# Altium schematic symbol library MCU_Texas_MSP430.SchLib: 361 symbols (part 8 of 9)
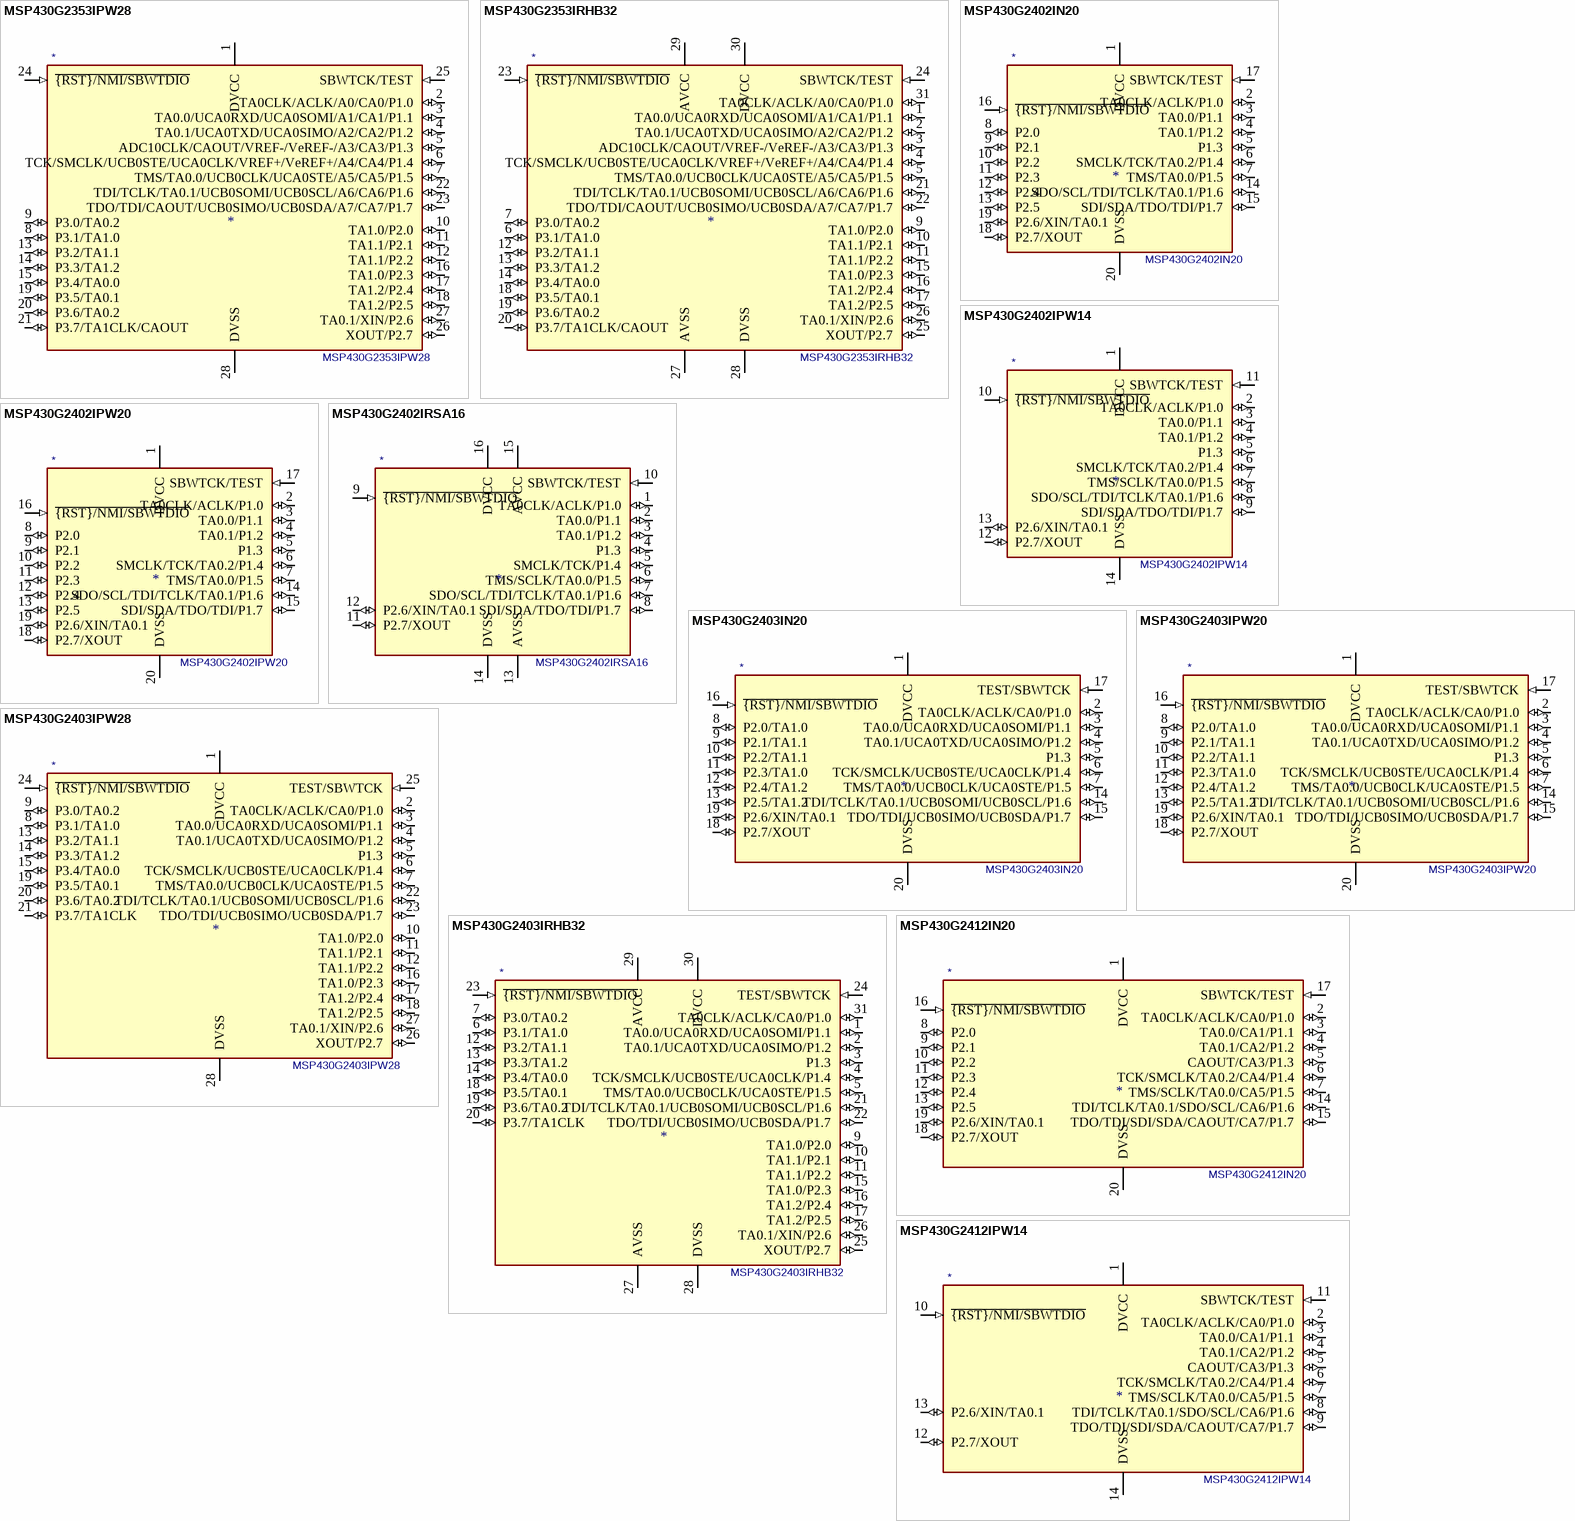
[diagram p41: symbols MSP430G2353IPW28 to MSP430G2412IPW14]

## MSP430G2403IPW28
designator *  value MSP430G2403IPW28
ki_keywords: TI MSP430 16-bit mixed signal microcontroller; ki_description: 8kB Flash, 512B RAM, TSSOP-28; ki_fp_filters: TSSOP*4.4x9.7mm*P0.65mm*; Footprint: Package_SO:TSSOP-28_4.4x9.7mm_P0.65mm; Supplier: http://www.ti.com/lit/ds/symlink/msp430g2403.pdf
footprint TSSOP-28_4.4x9.7mm_P0.65mm
pins: 1 DVCC (power), 2 TA0CLK/ACLK/CA0/P1.0 (io), 3 TA0.0/UCA0RXD/UCA0SOMI/P1.1 (io), 4 TA0.1/UCA0TXD/UCA0SIMO/P1.2 (io), 5 P1.3 (io), 6 TCK/SMCLK/UCB0STE/UCA0CLK/P1.4 (io), 7 TMS/TA0.0/UCB0CLK/UCA0STE/P1.5 (io), 8 P3.1/TA1.0 (io), 9 P3.0/TA0.2 (io), 10 TA1.0/P2.0 (io), 11 TA1.1/P2.1 (io), 12 TA1.1/P2.2 (io), 13 P3.2/TA1.1 (io), 14 P3.3/TA1.2 (io), 15 P3.4/TA0.0 (io), 16 TA1.0/P2.3 (io), 17 TA1.2/P2.4 (io), 18 TA1.2/P2.5 (io), 19 P3.5/TA0.1 (io), 20 P3.6/TA0.2 (io), 21 P3.7/TA1CLK (io), 22 TDI/TCLK/TA0.1/UCB0SOMI/UCB0SCL/P1.6 (io), 23 TDO/TDI/UCB0SIMO/UCB0SDA/P1.7 (io), 24 ~{{RST}/NMI/SBWTDIO} (in), 25 TEST/SBWTCK (in), 26 XOUT/P2.7 (io), 27 TA0.1/XIN/P2.6 (io), 28 DVSS (power)

## MSP430G2403IRHB32
designator *  value MSP430G2403IRHB32
ki_keywords: TI MSP430 16-bit mixed signal microcontroller; ki_description: 8kB Flash, 512B RAM, QFN-32; ki_fp_filters: Texas*S?PVQFN*; Footprint: Package_DFN_QFN:Texas_S-PVQFN-N32_EP3.45x3.45mm; Supplier: http://www.ti.com/lit/ds/symlink/msp430g2403.pdf
footprint Texas_S-PVQFN-N32_EP3.45x3.45mm
pins: 1 TA0.0/UCA0RXD/UCA0SOMI/P1.1 (io), 2 TA0.1/UCA0TXD/UCA0SIMO/P1.2 (io), 3 P1.3 (io), 4 TCK/SMCLK/UCB0STE/UCA0CLK/P1.4 (io), 5 TMS/TA0.0/UCB0CLK/UCA0STE/P1.5 (io), 6 P3.1/TA1.0 (io), 7 P3.0/TA0.2 (io), 9 TA1.0/P2.0 (io), 10 TA1.1/P2.1 (io), 11 TA1.1/P2.2 (io), 12 P3.2/TA1.1 (io), 13 P3.3/TA1.2 (io), 14 P3.4/TA0.0 (io), 15 TA1.0/P2.3 (io), 16 TA1.2/P2.4 (io), 17 TA1.2/P2.5 (io), 18 P3.5/TA0.1 (io), 19 P3.6/TA0.2 (io), 20 P3.7/TA1CLK (io), 21 TDI/TCLK/TA0.1/UCB0SOMI/UCB0SCL/P1.6 (io), 22 TDO/TDI/UCB0SIMO/UCB0SDA/P1.7 (io), 23 ~{{RST}/NMI/SBWTDIO} (in), 24 TEST/SBWTCK (in), 25 XOUT/P2.7 (io), 26 TA0.1/XIN/P2.6 (io), 27 AVSS (power), 28 DVSS (power), 29 AVCC (power), 30 DVCC (power), 31 TA0CLK/ACLK/CA0/P1.0 (io)

## MSP430G2412IN20
designator *  value MSP430G2412IN20
ki_keywords: TI MSP430 16-bit mixed signal microcontroller; ki_description: 8kB Flash, 256B RAM, DIP-20; ki_fp_filters: DIP*W7.62mm*; Footprint: Package_DIP:DIP-20_W7.62mm; Supplier: http://www.ti.com/lit/ds/symlink/msp430g2412.pdf
footprint DIP-20_W7.62mm
pins: 1 DVCC (power), 2 TA0CLK/ACLK/CA0/P1.0 (io), 3 TA0.0/CA1/P1.1 (io), 4 TA0.1/CA2/P1.2 (io), 5 CAOUT/CA3/P1.3 (io), 6 TCK/SMCLK/TA0.2/CA4/P1.4 (io), 7 TMS/SCLK/TA0.0/CA5/P1.5 (io), 8 P2.0 (io), 9 P2.1 (io), 10 P2.2 (io), 11 P2.3 (io), 12 P2.4 (io), 13 P2.5 (io), 14 TDI/TCLK/TA0.1/SDO/SCL/CA6/P1.6 (io), 15 TDO/TDI/SDI/SDA/CAOUT/CA7/P1.7 (io), 16 ~{{RST}/NMI/SBWTDIO} (in), 17 SBWTCK/TEST (in), 18 P2.7/XOUT (io), 19 P2.6/XIN/TA0.1 (io), 20 DVSS (power)

## MSP430G2412IPW14
designator *  value MSP430G2412IPW14
ki_keywords: TI MSP430 16-bit mixed signal microcontroller; ki_description: 8kB Flash, 256B RAM, TSSOP-14; ki_fp_filters: TSSOP*4.4x5mm*P0.65mm*; Footprint: Package_SO:TSSOP-14_4.4x5mm_P0.65mm; Supplier: http://www.ti.com/lit/ds/symlink/msp430g2412.pdf
footprint TSSOP-14_4.4x5mm_P0.65mm
pins: 1 DVCC (power), 2 TA0CLK/ACLK/CA0/P1.0 (io), 3 TA0.0/CA1/P1.1 (io), 4 TA0.1/CA2/P1.2 (io), 5 CAOUT/CA3/P1.3 (io), 6 TCK/SMCLK/TA0.2/CA4/P1.4 (io), 7 TMS/SCLK/TA0.0/CA5/P1.5 (io), 8 TDI/TCLK/TA0.1/SDO/SCL/CA6/P1.6 (io), 9 TDO/TDI/SDI/SDA/CAOUT/CA7/P1.7 (io), 10 ~{{RST}/NMI/SBWTDIO} (in), 11 SBWTCK/TEST (in), 12 P2.7/XOUT (io), 13 P2.6/XIN/TA0.1 (io), 14 DVSS (power)

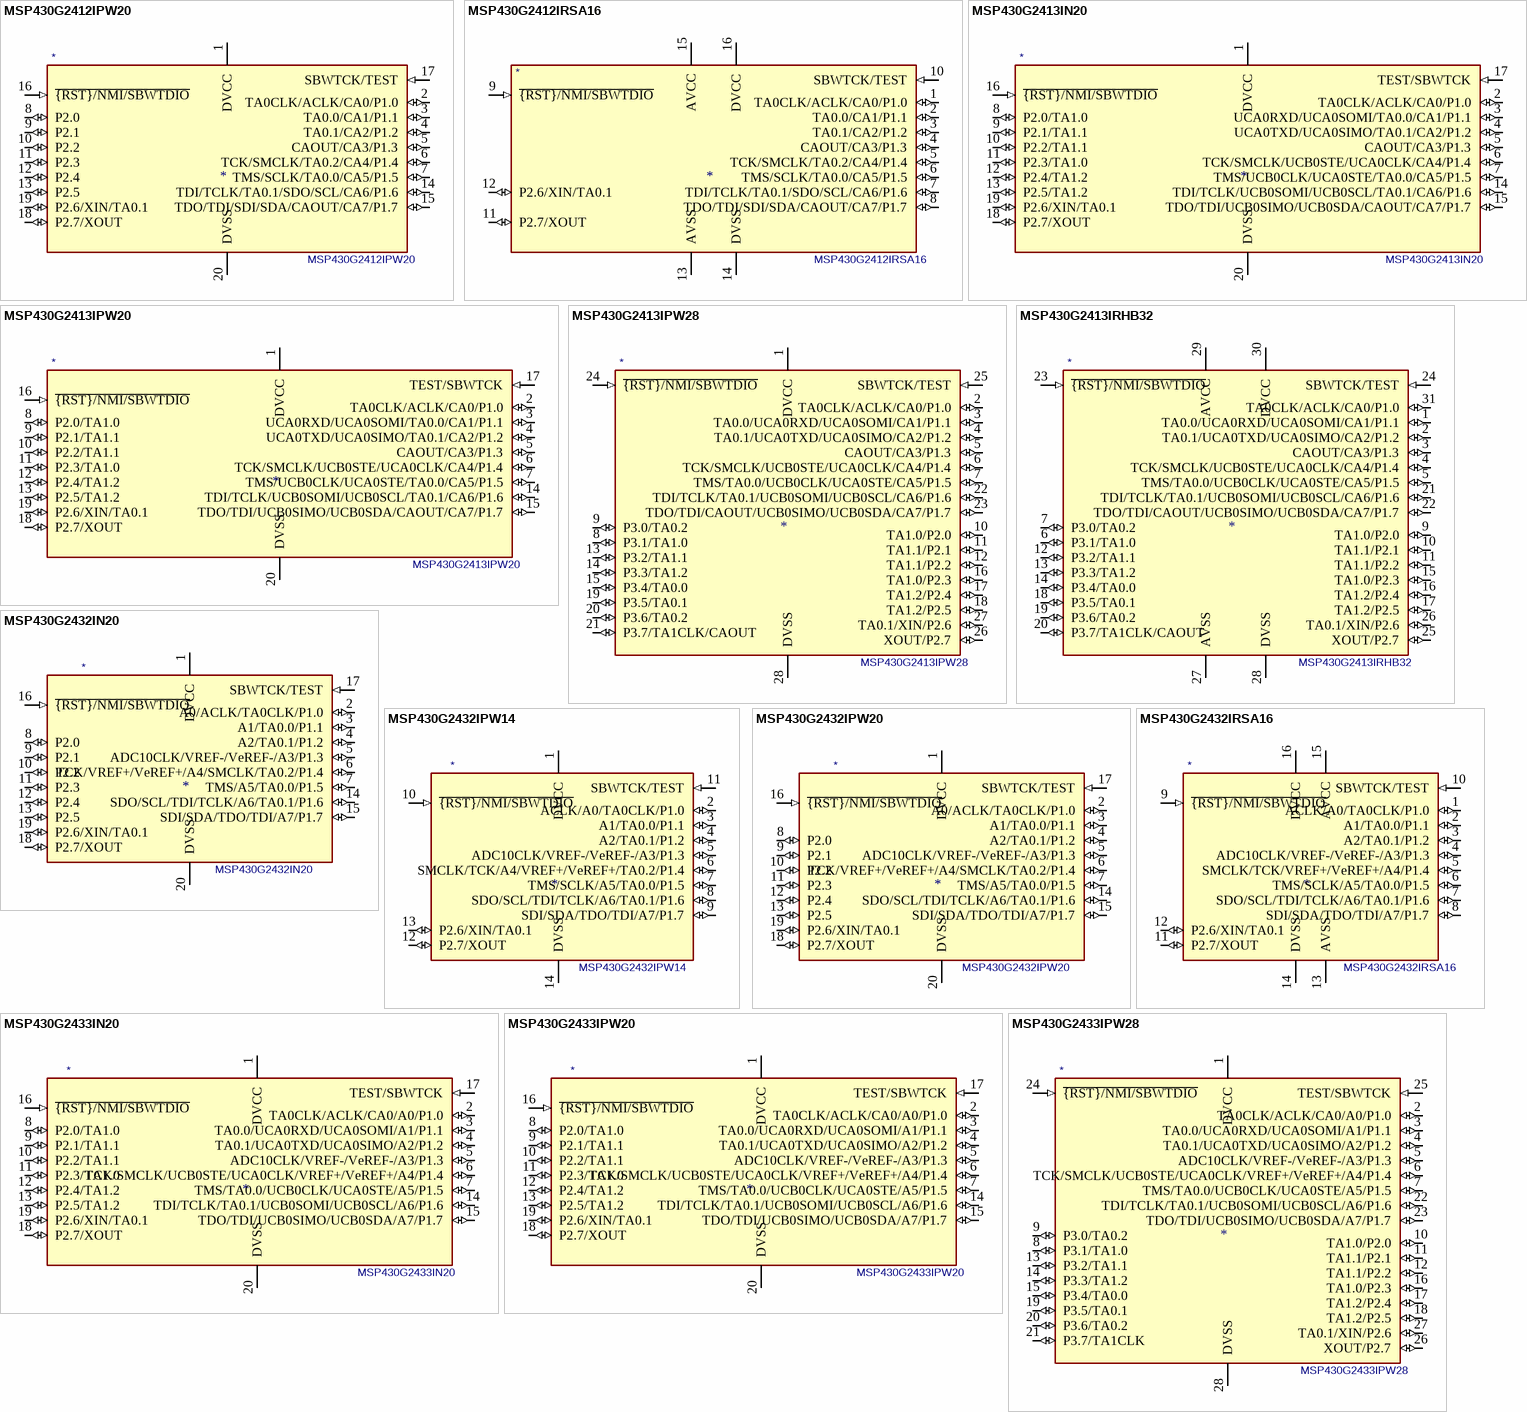
[diagram p30: symbols MSP430G2412IPW20 to MSP430G2433IPW28]

## MSP430G2412IPW20
designator *  value MSP430G2412IPW20
ki_keywords: TI MSP430 16-bit mixed signal microcontroller; ki_description: 8kB Flash, 256B RAM, TSSOP-20; ki_fp_filters: TSSOP*4.4x6.5mm*P0.65mm*; Footprint: Package_SO:TSSOP-20_4.4x6.5mm_P0.65mm; Supplier: http://www.ti.com/lit/ds/symlink/msp430g2412.pdf
footprint TSSOP-20_4.4x6.5mm_P0.65mm
pins: 1 DVCC (power), 2 TA0CLK/ACLK/CA0/P1.0 (io), 3 TA0.0/CA1/P1.1 (io), 4 TA0.1/CA2/P1.2 (io), 5 CAOUT/CA3/P1.3 (io), 6 TCK/SMCLK/TA0.2/CA4/P1.4 (io), 7 TMS/SCLK/TA0.0/CA5/P1.5 (io), 8 P2.0 (io), 9 P2.1 (io), 10 P2.2 (io), 11 P2.3 (io), 12 P2.4 (io), 13 P2.5 (io), 14 TDI/TCLK/TA0.1/SDO/SCL/CA6/P1.6 (io), 15 TDO/TDI/SDI/SDA/CAOUT/CA7/P1.7 (io), 16 ~{{RST}/NMI/SBWTDIO} (in), 17 SBWTCK/TEST (in), 18 P2.7/XOUT (io), 19 P2.6/XIN/TA0.1 (io), 20 DVSS (power)

## MSP430G2412IRSA16
designator *  value MSP430G2412IRSA16
ki_keywords: TI MSP430 16-bit mixed signal microcontroller; ki_description: 8kB Flash, 256B RAM, QFN-16; ki_fp_filters: Texas*S?PVQFN*; Footprint: Package_DFN_QFN:Texas_S-PVQFN-N16_EP2.7x2.7mm; Supplier: http://www.ti.com/lit/ds/symlink/msp430g2412.pdf
footprint Texas_S-PVQFN-N16_EP2.7x2.7mm
pins: 1 TA0CLK/ACLK/CA0/P1.0 (io), 2 TA0.0/CA1/P1.1 (io), 3 TA0.1/CA2/P1.2 (io), 4 CAOUT/CA3/P1.3 (io), 5 TCK/SMCLK/TA0.2/CA4/P1.4 (io), 6 TMS/SCLK/TA0.0/CA5/P1.5 (io), 7 TDI/TCLK/TA0.1/SDO/SCL/CA6/P1.6 (io), 8 TDO/TDI/SDI/SDA/CAOUT/CA7/P1.7 (io), 9 ~{{RST}/NMI/SBWTDIO} (in), 10 SBWTCK/TEST (in), 11 P2.7/XOUT (io), 12 P2.6/XIN/TA0.1 (io), 13 AVSS (power), 14 DVSS (power), 15 AVCC (power), 16 DVCC (power)

## MSP430G2413IN20
designator *  value MSP430G2413IN20
ki_keywords: TI MSP430 16-bit mixed signal microcontroller; ki_description: 8kB Flash, 512B RAM, DIP-20; ki_fp_filters: DIP*W7.62mm*; Footprint: Package_DIP:DIP-20_W7.62mm; Supplier: http://www.ti.com/lit/ds/symlink/msp430g2413.pdf
footprint DIP-20_W7.62mm
pins: 1 DVCC (power), 2 TA0CLK/ACLK/CA0/P1.0 (io), 3 UCA0RXD/UCA0SOMI/TA0.0/CA1/P1.1 (io), 4 UCA0TXD/UCA0SIMO/TA0.1/CA2/P1.2 (io), 5 CAOUT/CA3/P1.3 (io), 6 TCK/SMCLK/UCB0STE/UCA0CLK/CA4/P1.4 (io), 7 TMS/UCB0CLK/UCA0STE/TA0.0/CA5/P1.5 (io), 8 P2.0/TA1.0 (io), 9 P2.1/TA1.1 (io), 10 P2.2/TA1.1 (io), 11 P2.3/TA1.0 (io), 12 P2.4/TA1.2 (io), 13 P2.5/TA1.2 (io), 14 TDI/TCLK/UCB0SOMI/UCB0SCL/TA0.1/CA6/P1.6 (io), 15 TDO/TDI/UCB0SIMO/UCB0SDA/CAOUT/CA7/P1.7 (io), 16 ~{{RST}/NMI/SBWTDIO} (in), 17 TEST/SBWTCK (in), 18 P2.7/XOUT (io), 19 P2.6/XIN/TA0.1 (io), 20 DVSS (power)

## MSP430G2413IPW20
designator *  value MSP430G2413IPW20
ki_keywords: TI MSP430 16-bit mixed signal microcontroller; ki_description: 8kB Flash, 512B RAM, TSSOP-20; ki_fp_filters: TSSOP*4.4x6.5mm*P0.65mm*; Footprint: Package_SO:TSSOP-20_4.4x6.5mm_P0.65mm; Supplier: http://www.ti.com/lit/ds/symlink/msp430g2413.pdf
footprint TSSOP-20_4.4x6.5mm_P0.65mm
pins: 1 DVCC (power), 2 TA0CLK/ACLK/CA0/P1.0 (io), 3 UCA0RXD/UCA0SOMI/TA0.0/CA1/P1.1 (io), 4 UCA0TXD/UCA0SIMO/TA0.1/CA2/P1.2 (io), 5 CAOUT/CA3/P1.3 (io), 6 TCK/SMCLK/UCB0STE/UCA0CLK/CA4/P1.4 (io), 7 TMS/UCB0CLK/UCA0STE/TA0.0/CA5/P1.5 (io), 8 P2.0/TA1.0 (io), 9 P2.1/TA1.1 (io), 10 P2.2/TA1.1 (io), 11 P2.3/TA1.0 (io), 12 P2.4/TA1.2 (io), 13 P2.5/TA1.2 (io), 14 TDI/TCLK/UCB0SOMI/UCB0SCL/TA0.1/CA6/P1.6 (io), 15 TDO/TDI/UCB0SIMO/UCB0SDA/CAOUT/CA7/P1.7 (io), 16 ~{{RST}/NMI/SBWTDIO} (in), 17 TEST/SBWTCK (in), 18 P2.7/XOUT (io), 19 P2.6/XIN/TA0.1 (io), 20 DVSS (power)

## MSP430G2413IPW28
designator *  value MSP430G2413IPW28
ki_keywords: TI MSP430 16-bit mixed signal microcontroller; ki_description: 8kB Flash, 512B RAM, TSSOP-28; ki_fp_filters: TSSOP*4.4x9.7mm*P0.65mm*; Footprint: Package_SO:TSSOP-28_4.4x9.7mm_P0.65mm; Supplier: http://www.ti.com/lit/ds/symlink/msp430g2413.pdf
footprint TSSOP-28_4.4x9.7mm_P0.65mm
pins: 1 DVCC (power), 2 TA0CLK/ACLK/CA0/P1.0 (io), 3 TA0.0/UCA0RXD/UCA0SOMI/CA1/P1.1 (io), 4 TA0.1/UCA0TXD/UCA0SIMO/CA2/P1.2 (io), 5 CAOUT/CA3/P1.3 (io), 6 TCK/SMCLK/UCB0STE/UCA0CLK/CA4/P1.4 (io), 7 TMS/TA0.0/UCB0CLK/UCA0STE/CA5/P1.5 (io), 8 P3.1/TA1.0 (io), 9 P3.0/TA0.2 (io), 10 TA1.0/P2.0 (io), 11 TA1.1/P2.1 (io), 12 TA1.1/P2.2 (io), 13 P3.2/TA1.1 (io), 14 P3.3/TA1.2 (io), 15 P3.4/TA0.0 (io), 16 TA1.0/P2.3 (io), 17 TA1.2/P2.4 (io), 18 TA1.2/P2.5 (io), 19 P3.5/TA0.1 (io), 20 P3.6/TA0.2 (io), 21 P3.7/TA1CLK/CAOUT (io), 22 TDI/TCLK/TA0.1/UCB0SOMI/UCB0SCL/CA6/P1.6 (io), 23 TDO/TDI/CAOUT/UCB0SIMO/UCB0SDA/CA7/P1.7 (io), 24 ~{{RST}/NMI/SBWTDIO} (in), 25 SBWTCK/TEST (in), 26 XOUT/P2.7 (io), 27 TA0.1/XIN/P2.6 (io), 28 DVSS (power)

## MSP430G2413IRHB32
designator *  value MSP430G2413IRHB32
ki_keywords: TI MSP430 16-bit mixed signal microcontroller; ki_description: 8kB Flash, 512B RAM, QFN-32; ki_fp_filters: Texas*S?PVQFN*; Footprint: Package_DFN_QFN:Texas_S-PVQFN-N32_EP3.45x3.45mm; Supplier: http://www.ti.com/lit/ds/symlink/msp430g2413.pdf
footprint Texas_S-PVQFN-N32_EP3.45x3.45mm
pins: 1 TA0.0/UCA0RXD/UCA0SOMI/CA1/P1.1 (io), 2 TA0.1/UCA0TXD/UCA0SIMO/CA2/P1.2 (io), 3 CAOUT/CA3/P1.3 (io), 4 TCK/SMCLK/UCB0STE/UCA0CLK/CA4/P1.4 (io), 5 TMS/TA0.0/UCB0CLK/UCA0STE/CA5/P1.5 (io), 6 P3.1/TA1.0 (io), 7 P3.0/TA0.2 (io), 9 TA1.0/P2.0 (io), 10 TA1.1/P2.1 (io), 11 TA1.1/P2.2 (io), 12 P3.2/TA1.1 (io), 13 P3.3/TA1.2 (io), 14 P3.4/TA0.0 (io), 15 TA1.0/P2.3 (io), 16 TA1.2/P2.4 (io), 17 TA1.2/P2.5 (io), 18 P3.5/TA0.1 (io), 19 P3.6/TA0.2 (io), 20 P3.7/TA1CLK/CAOUT (io), 21 TDI/TCLK/TA0.1/UCB0SOMI/UCB0SCL/CA6/P1.6 (io), 22 TDO/TDI/CAOUT/UCB0SIMO/UCB0SDA/CA7/P1.7 (io), 23 ~{{RST}/NMI/SBWTDIO} (in), 24 SBWTCK/TEST (in), 25 XOUT/P2.7 (io), 26 TA0.1/XIN/P2.6 (io), 27 AVSS (power), 28 DVSS (power), 29 AVCC (power), 30 DVCC (power), 31 TA0CLK/ACLK/CA0/P1.0 (io)

## MSP430G2432IN20
designator *  value MSP430G2432IN20
ki_keywords: TI MSP430 16-bit mixed signal microcontroller; ki_description: 8kB Flash, 256B RAM, DIP-20; ki_fp_filters: DIP*W7.62mm*; Footprint: Package_DIP:DIP-20_W7.62mm; Supplier: http://www.ti.com/lit/ds/symlink/msp430g2432.pdf
footprint DIP-20_W7.62mm
pins: 1 DVCC (power), 2 A0/ACLK/TA0CLK/P1.0 (io), 3 A1/TA0.0/P1.1 (io), 4 A2/TA0.1/P1.2 (io), 5 ADC10CLK/VREF-/VeREF-/A3/P1.3 (io), 6 TCK/VREF+/VeREF+/A4/SMCLK/TA0.2/P1.4 (io), 7 TMS/A5/TA0.0/P1.5 (io), 8 P2.0 (io), 9 P2.1 (io), 10 P2.2 (io), 11 P2.3 (io), 12 P2.4 (io), 13 P2.5 (io), 14 SDO/SCL/TDI/TCLK/A6/TA0.1/P1.6 (io), 15 SDI/SDA/TDO/TDI/A7/P1.7 (io), 16 ~{{RST}/NMI/SBWTDIO} (in), 17 SBWTCK/TEST (in), 18 P2.7/XOUT (io), 19 P2.6/XIN/TA0.1 (io), 20 DVSS (power)

## MSP430G2432IPW14
designator *  value MSP430G2432IPW14
ki_keywords: TI MSP430 16-bit mixed signal microcontroller; ki_description: 8kB Flash, 256B RAM, TSSOP-14; ki_fp_filters: TSSOP*4.4x5mm*P0.65mm*; Footprint: Package_SO:TSSOP-14_4.4x5mm_P0.65mm; Supplier: http://www.ti.com/lit/ds/symlink/msp430g2432.pdf
footprint TSSOP-14_4.4x5mm_P0.65mm
pins: 1 DVCC (power), 2 ACLK/A0/TA0CLK/P1.0 (io), 3 A1/TA0.0/P1.1 (io), 4 A2/TA0.1/P1.2 (io), 5 ADC10CLK/VREF-/VeREF-/A3/P1.3 (io), 6 SMCLK/TCK/A4/VREF+/VeREF+/TA0.2/P1.4 (io), 7 TMS/SCLK/A5/TA0.0/P1.5 (io), 8 SDO/SCL/TDI/TCLK/A6/TA0.1/P1.6 (io), 9 SDI/SDA/TDO/TDI/A7/P1.7 (io), 10 ~{{RST}/NMI/SBWTDIO} (in), 11 SBWTCK/TEST (in), 12 P2.7/XOUT (io), 13 P2.6/XIN/TA0.1 (io), 14 DVSS (power)

## MSP430G2432IPW20
designator *  value MSP430G2432IPW20
ki_keywords: TI MSP430 16-bit mixed signal microcontroller; ki_description: 8kB Flash, 256B RAM, TSSOP-20; ki_fp_filters: TSSOP*4.4x6.5mm*P0.65mm*; Footprint: Package_SO:TSSOP-20_4.4x6.5mm_P0.65mm; Supplier: http://www.ti.com/lit/ds/symlink/msp430g2432.pdf
footprint TSSOP-20_4.4x6.5mm_P0.65mm
pins: 1 DVCC (power), 2 A0/ACLK/TA0CLK/P1.0 (io), 3 A1/TA0.0/P1.1 (io), 4 A2/TA0.1/P1.2 (io), 5 ADC10CLK/VREF-/VeREF-/A3/P1.3 (io), 6 TCK/VREF+/VeREF+/A4/SMCLK/TA0.2/P1.4 (io), 7 TMS/A5/TA0.0/P1.5 (io), 8 P2.0 (io), 9 P2.1 (io), 10 P2.2 (io), 11 P2.3 (io), 12 P2.4 (io), 13 P2.5 (io), 14 SDO/SCL/TDI/TCLK/A6/TA0.1/P1.6 (io), 15 SDI/SDA/TDO/TDI/A7/P1.7 (io), 16 ~{{RST}/NMI/SBWTDIO} (in), 17 SBWTCK/TEST (in), 18 P2.7/XOUT (io), 19 P2.6/XIN/TA0.1 (io), 20 DVSS (power)

## MSP430G2432IRSA16
designator *  value MSP430G2432IRSA16
ki_keywords: TI MSP430 16-bit mixed signal microcontroller; ki_description: 8kB Flash, 256B RAM, QFN-16; ki_fp_filters: Texas*S?PVQFN*; Footprint: Package_DFN_QFN:Texas_S-PVQFN-N16_EP2.7x2.7mm; Supplier: http://www.ti.com/lit/ds/symlink/msp430g2432.pdf
footprint Texas_S-PVQFN-N16_EP2.7x2.7mm
pins: 1 ACLK/A0/TA0CLK/P1.0 (io), 2 A1/TA0.0/P1.1 (io), 3 A2/TA0.1/P1.2 (io), 4 ADC10CLK/VREF-/VeREF-/A3/P1.3 (io), 5 SMCLK/TCK/VREF+/VeREF+/A4/P1.4 (io), 6 TMS/SCLK/A5/TA0.0/P1.5 (io), 7 SDO/SCL/TDI/TCLK/A6/TA0.1/P1.6 (io), 8 SDI/SDA/TDO/TDI/A7/P1.7 (io), 9 ~{{RST}/NMI/SBWTDIO} (in), 10 SBWTCK/TEST (in), 11 P2.7/XOUT (io), 12 P2.6/XIN/TA0.1 (io), 13 AVSS (power), 14 DVSS (power), 15 AVCC (power), 16 DVCC (power)

## MSP430G2433IN20
designator *  value MSP430G2433IN20
ki_keywords: TI MSP430 16-bit mixed signal microcontroller; ki_description: 8kB Flash, 512B RAM, DIP-20; ki_fp_filters: DIP*W7.62mm*; Footprint: Package_DIP:DIP-20_W7.62mm; Supplier: http://www.ti.com/lit/ds/symlink/msp430g2433.pdf
footprint DIP-20_W7.62mm
pins: 1 DVCC (power), 2 TA0CLK/ACLK/CA0/A0/P1.0 (io), 3 TA0.0/UCA0RXD/UCA0SOMI/A1/P1.1 (io), 4 TA0.1/UCA0TXD/UCA0SIMO/A2/P1.2 (io), 5 ADC10CLK/VREF-/VeREF-/A3/P1.3 (io), 6 TCK/SMCLK/UCB0STE/UCA0CLK/VREF+/VeREF+/A4/P1.4 (io), 7 TMS/TA0.0/UCB0CLK/UCA0STE/A5/P1.5 (io), 8 P2.0/TA1.0 (io), 9 P2.1/TA1.1 (io), 10 P2.2/TA1.1 (io), 11 P2.3/TA1.0 (io), 12 P2.4/TA1.2 (io), 13 P2.5/TA1.2 (io), 14 TDI/TCLK/TA0.1/UCB0SOMI/UCB0SCL/A6/P1.6 (io), 15 TDO/TDI/UCB0SIMO/UCB0SDA/A7/P1.7 (io), 16 ~{{RST}/NMI/SBWTDIO} (in), 17 TEST/SBWTCK (in), 18 P2.7/XOUT (io), 19 P2.6/XIN/TA0.1 (io), 20 DVSS (power)

## MSP430G2433IPW20
designator *  value MSP430G2433IPW20
ki_keywords: TI MSP430 16-bit mixed signal microcontroller; ki_description: 8kB Flash, 512B RAM, TSSOP-20; ki_fp_filters: TSSOP*4.4x6.5mm*P0.65mm*; Footprint: Package_SO:TSSOP-20_4.4x6.5mm_P0.65mm; Supplier: http://www.ti.com/lit/ds/symlink/msp430g2433.pdf
footprint TSSOP-20_4.4x6.5mm_P0.65mm
pins: 1 DVCC (power), 2 TA0CLK/ACLK/CA0/A0/P1.0 (io), 3 TA0.0/UCA0RXD/UCA0SOMI/A1/P1.1 (io), 4 TA0.1/UCA0TXD/UCA0SIMO/A2/P1.2 (io), 5 ADC10CLK/VREF-/VeREF-/A3/P1.3 (io), 6 TCK/SMCLK/UCB0STE/UCA0CLK/VREF+/VeREF+/A4/P1.4 (io), 7 TMS/TA0.0/UCB0CLK/UCA0STE/A5/P1.5 (io), 8 P2.0/TA1.0 (io), 9 P2.1/TA1.1 (io), 10 P2.2/TA1.1 (io), 11 P2.3/TA1.0 (io), 12 P2.4/TA1.2 (io), 13 P2.5/TA1.2 (io), 14 TDI/TCLK/TA0.1/UCB0SOMI/UCB0SCL/A6/P1.6 (io), 15 TDO/TDI/UCB0SIMO/UCB0SDA/A7/P1.7 (io), 16 ~{{RST}/NMI/SBWTDIO} (in), 17 TEST/SBWTCK (in), 18 P2.7/XOUT (io), 19 P2.6/XIN/TA0.1 (io), 20 DVSS (power)

## MSP430G2433IPW28
designator *  value MSP430G2433IPW28
ki_keywords: TI MSP430 16-bit mixed signal microcontroller; ki_description: 8kB Flash, 512B RAM, TSSOP-28; ki_fp_filters: TSSOP*4.4x9.7mm*P0.65mm*; Footprint: Package_SO:TSSOP-28_4.4x9.7mm_P0.65mm; Supplier: http://www.ti.com/lit/ds/symlink/msp430g2433.pdf
footprint TSSOP-28_4.4x9.7mm_P0.65mm
pins: 1 DVCC (power), 2 TA0CLK/ACLK/CA0/A0/P1.0 (io), 3 TA0.0/UCA0RXD/UCA0SOMI/A1/P1.1 (io), 4 TA0.1/UCA0TXD/UCA0SIMO/A2/P1.2 (io), 5 ADC10CLK/VREF-/VeREF-/A3/P1.3 (io), 6 TCK/SMCLK/UCB0STE/UCA0CLK/VREF+/VeREF+/A4/P1.4 (io), 7 TMS/TA0.0/UCB0CLK/UCA0STE/A5/P1.5 (io), 8 P3.1/TA1.0 (io), 9 P3.0/TA0.2 (io), 10 TA1.0/P2.0 (io), 11 TA1.1/P2.1 (io), 12 TA1.1/P2.2 (io), 13 P3.2/TA1.1 (io), 14 P3.3/TA1.2 (io), 15 P3.4/TA0.0 (io), 16 TA1.0/P2.3 (io), 17 TA1.2/P2.4 (io), 18 TA1.2/P2.5 (io), 19 P3.5/TA0.1 (io), 20 P3.6/TA0.2 (io), 21 P3.7/TA1CLK (io), 22 TDI/TCLK/TA0.1/UCB0SOMI/UCB0SCL/A6/P1.6 (io), 23 TDO/TDI/UCB0SIMO/UCB0SDA/A7/P1.7 (io), 24 ~{{RST}/NMI/SBWTDIO} (in), 25 TEST/SBWTCK (in), 26 XOUT/P2.7 (io), 27 TA0.1/XIN/P2.6 (io), 28 DVSS (power)

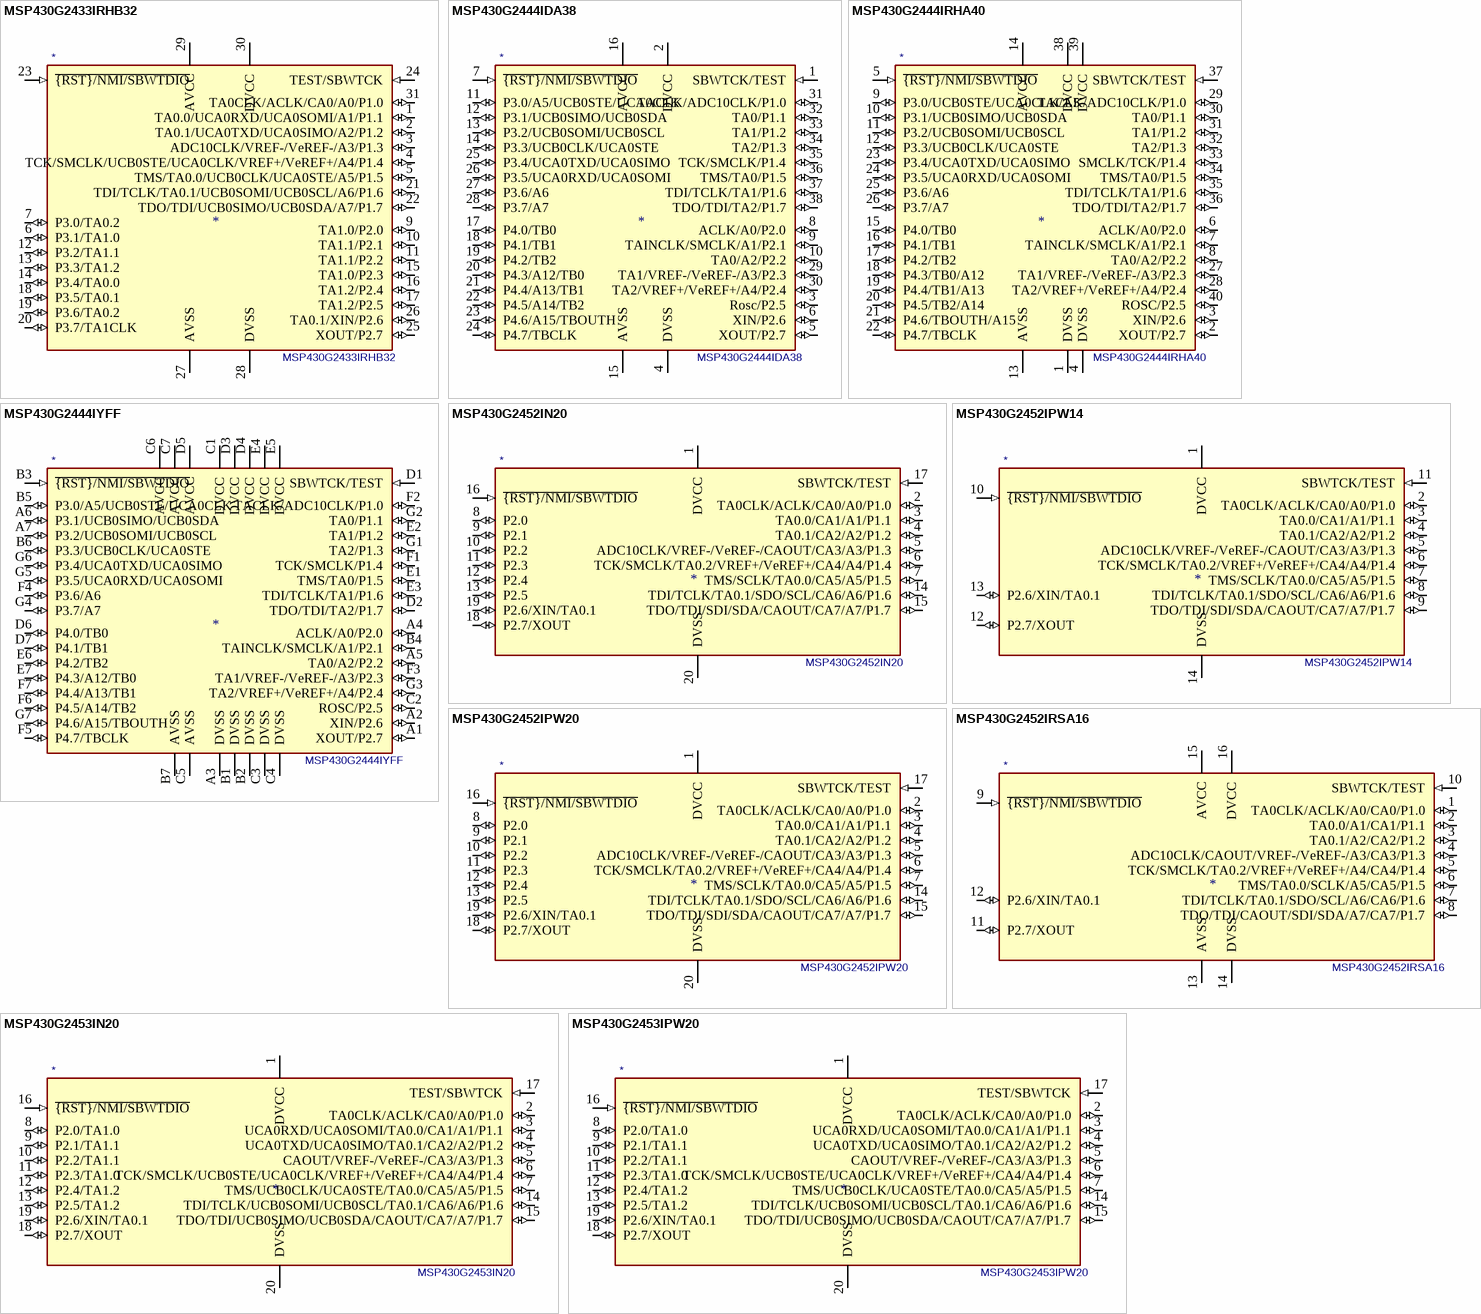
[diagram p31: symbols MSP430G2433IRHB32 to MSP430G2453IPW20]

## MSP430G2433IRHB32
designator *  value MSP430G2433IRHB32
ki_keywords: TI MSP430 16-bit mixed signal microcontroller; ki_description: 8kB Flash, 512B RAM, QFN-32; ki_fp_filters: Texas*S?PVQFN*; Footprint: Package_DFN_QFN:Texas_S-PVQFN-N32_EP3.45x3.45mm; Supplier: http://www.ti.com/lit/ds/symlink/msp430g2433.pdf
footprint Texas_S-PVQFN-N32_EP3.45x3.45mm
pins: 1 TA0.0/UCA0RXD/UCA0SOMI/A1/P1.1 (io), 2 TA0.1/UCA0TXD/UCA0SIMO/A2/P1.2 (io), 3 ADC10CLK/VREF-/VeREF-/A3/P1.3 (io), 4 TCK/SMCLK/UCB0STE/UCA0CLK/VREF+/VeREF+/A4/P1.4 (io), 5 TMS/TA0.0/UCB0CLK/UCA0STE/A5/P1.5 (io), 6 P3.1/TA1.0 (io), 7 P3.0/TA0.2 (io), 9 TA1.0/P2.0 (io), 10 TA1.1/P2.1 (io), 11 TA1.1/P2.2 (io), 12 P3.2/TA1.1 (io), 13 P3.3/TA1.2 (io), 14 P3.4/TA0.0 (io), 15 TA1.0/P2.3 (io), 16 TA1.2/P2.4 (io), 17 TA1.2/P2.5 (io), 18 P3.5/TA0.1 (io), 19 P3.6/TA0.2 (io), 20 P3.7/TA1CLK (io), 21 TDI/TCLK/TA0.1/UCB0SOMI/UCB0SCL/A6/P1.6 (io), 22 TDO/TDI/UCB0SIMO/UCB0SDA/A7/P1.7 (io), 23 ~{{RST}/NMI/SBWTDIO} (in), 24 TEST/SBWTCK (in), 25 XOUT/P2.7 (io), 26 TA0.1/XIN/P2.6 (io), 27 AVSS (power), 28 DVSS (power), 29 AVCC (power), 30 DVCC (power), 31 TA0CLK/ACLK/CA0/A0/P1.0 (io)

## MSP430G2444IDA38
designator *  value MSP430G2444IDA38
ki_keywords: TI MSP430 16-bit mixed signal microcontroller; ki_description: 8kB + 256B Flash, 512B RAM, TSSOP-38; ki_fp_filters: TSSOP*6.1x12.5mm*P0.65mm*; Footprint: Package_SO:TSSOP-38_6.1x12.5mm_P0.65mm; Supplier: http://www.ti.com/lit/ds/symlink/msp430g2444.pdf
footprint TSSOP-38_6.1x12.5mm_P0.65mm
pins: 1 SBWTCK/TEST (in), 2 DVCC (power), 3 Rosc/P2.5 (io), 4 DVSS (power), 5 XOUT/P2.7 (io), 6 XIN/P2.6 (io), 7 ~{{RST}/NMI/SBWTDIO} (in), 8 ACLK/A0/P2.0 (io), 9 TAINCLK/SMCLK/A1/P2.1 (io), 10 TA0/A2/P2.2 (io), 11 P3.0/A5/UCB0STE/UCA0CLK (io), 12 P3.1/UCB0SIMO/UCB0SDA (io), 13 P3.2/UCB0SOMI/UCB0SCL (io), 14 P3.3/UCB0CLK/UCA0STE (io), 15 AVSS (power), 16 AVCC (power), 17 P4.0/TB0 (io), 18 P4.1/TB1 (io), 19 P4.2/TB2 (io), 20 P4.3/A12/TB0 (io), 21 P4.4/A13/TB1 (io), 22 P4.5/A14/TB2 (io), 23 P4.6/A15/TBOUTH (io), 24 P4.7/TBCLK (io), 25 P3.4/UCA0TXD/UCA0SIMO (io), 26 P3.5/UCA0RXD/UCA0SOMI (io), 27 P3.6/A6 (io), 28 P3.7/A7 (io), 29 TA1/VREF-/VeREF-/A3/P2.3 (io), 30 TA2/VREF+/VeREF+/A4/P2.4 (io), 31 TACLK/ADC10CLK/P1.0 (io), 32 TA0/P1.1 (io), 33 TA1/P1.2 (io), 34 TA2/P1.3 (io), 35 TCK/SMCLK/P1.4 (io), 36 TMS/TA0/P1.5 (io), 37 TDI/TCLK/TA1/P1.6 (io), 38 TDO/TDI/TA2/P1.7 (io)

## MSP430G2444IRHA40
designator *  value MSP430G2444IRHA40
ki_keywords: TI MSP430 16-bit mixed signal microcontroller; ki_description: 8kB + 256B Flash, 512B RAM, QFN-40; ki_fp_filters: Texas*S?PVQFN*; Footprint: Package_DFN_QFN:Texas_S-PVQFN-N40_EP4.15x4.15mm; Supplier: http://www.ti.com/lit/ds/symlink/msp430g2444.pdf
footprint Texas_S-PVQFN-N40_EP4.15x4.15mm
pins: 1 DVSS (power), 2 XOUT/P2.7 (io), 3 XIN/P2.6 (io), 4 DVSS (power), 5 ~{{RST}/NMI/SBWTDIO} (in), 6 ACLK/A0/P2.0 (io), 7 TAINCLK/SMCLK/A1/P2.1 (io), 8 TA0/A2/P2.2 (io), 9 P3.0/UCB0STE/UCA0CLK/A5 (io), 10 P3.1/UCB0SIMO/UCB0SDA (io), 11 P3.2/UCB0SOMI/UCB0SCL (io), 12 P3.3/UCB0CLK/UCA0STE (io), 13 AVSS (power), 14 AVCC (power), 15 P4.0/TB0 (io), 16 P4.1/TB1 (io), 17 P4.2/TB2 (io), 18 P4.3/TB0/A12 (io), 19 P4.4/TB1/A13 (io), 20 P4.5/TB2/A14 (io), 21 P4.6/TBOUTH/A15 (io), 22 P4.7/TBCLK (io), 23 P3.4/UCA0TXD/UCA0SIMO (io), 24 P3.5/UCA0RXD/UCA0SOMI (io), 25 P3.6/A6 (io), 26 P3.7/A7 (io), 27 TA1/VREF-/VeREF-/A3/P2.3 (io), 28 TA2/VREF+/VeREF+/A4/P2.4 (io), 29 TACLK/ADC10CLK/P1.0 (io), 30 TA0/P1.1 (io), 31 TA1/P1.2 (io), 32 TA2/P1.3 (io), 33 SMCLK/TCK/P1.4 (io), 34 TMS/TA0/P1.5 (io), 35 TDI/TCLK/TA1/P1.6 (io), 36 TDO/TDI/TA2/P1.7 (io), 37 SBWTCK/TEST (in), 38 DVCC (power), 39 DVCC (power), 40 ROSC/P2.5 (io)

## MSP430G2444IYFF
designator *  value MSP430G2444IYFF
ki_keywords: TI MSP430 16-bit mixed signal microcontroller; ki_description: 8kB + 256B Flash, 512B RAM, BGA-49; ki_fp_filters: Texas*DSBGA*3.33x3.488mm*Layout7x7*P0.4mm*; Footprint: Package_BGA:Texas_DSBGA-49_3.33x3.488mm_Layout7x7_P0.4mm; Supplier: http://www.ti.com/lit/ds/symlink/msp430g2444.pdf
footprint Texas_DSBGA-49_3.33x3.488mm_Layout7x7_P0.4mm
pins: A1 XOUT/P2.7 (io), A2 XIN/P2.6 (io), A3 DVSS (power), A4 ACLK/A0/P2.0 (io), A5 TA0/A2/P2.2 (io), A6 P3.1/UCB0SIMO/UCB0SDA (io), A7 P3.2/UCB0SOMI/UCB0SCL (io), B1 DVSS (power), B2 DVSS (power), B3 ~{{RST}/NMI/SBWTDIO} (in), B4 TAINCLK/SMCLK/A1/P2.1 (io), B5 P3.0/A5/UCB0STE/UCA0CLK (io), B6 P3.3/UCB0CLK/UCA0STE (io), B7 AVSS (power), C1 DVCC (power), C2 ROSC/P2.5 (io), C3 DVSS (power), C4 DVSS (power), C5 AVSS (power), C6 AVCC (power), C7 AVCC (power), D1 SBWTCK/TEST (in), D2 TDO/TDI/TA2/P1.7 (io), D3 DVCC (power), D4 DVCC (power), D5 AVCC (power), D6 P4.0/TB0 (io), D7 P4.1/TB1 (io), E1 TMS/TA0/P1.5 (io), E2 TA1/P1.2 (io), E3 TDI/TCLK/TA1/P1.6 (io), E4 DVCC (power), E5 DVCC (power), E6 P4.2/TB2 (io), E7 P4.3/A12/TB0 (io), F1 TCK/SMCLK/P1.4 (io), F2 TACLK/ADC10CLK/P1.0 (io), F3 TA1/VREF-/VeREF-/A3/P2.3 (io), F4 P3.6/A6 (io), F5 P4.7/TBCLK (io), F6 P4.5/A14/TB2 (io), F7 P4.4/A13/TB1 (io), G1 TA2/P1.3 (io), G2 TA0/P1.1 (io), G3 TA2/VREF+/VeREF+/A4/P2.4 (io), G4 P3.7/A7 (io), G5 P3.5/UCA0RXD/UCA0SOMI (io), G6 P3.4/UCA0TXD/UCA0SIMO (io), G7 P4.6/A15/TBOUTH (io)

## MSP430G2452IN20
designator *  value MSP430G2452IN20
ki_keywords: TI MSP430 16-bit mixed signal microcontroller; ki_description: 8kB Flash, 256B RAM, DIP-20; ki_fp_filters: DIP*W7.62mm*; Footprint: Package_DIP:DIP-20_W7.62mm; Supplier: http://www.ti.com/lit/ds/symlink/msp430g2452.pdf
footprint DIP-20_W7.62mm
pins: 1 DVCC (power), 2 TA0CLK/ACLK/CA0/A0/P1.0 (io), 3 TA0.0/CA1/A1/P1.1 (io), 4 TA0.1/CA2/A2/P1.2 (io), 5 ADC10CLK/VREF-/VeREF-/CAOUT/CA3/A3/P1.3 (io), 6 TCK/SMCLK/TA0.2/VREF+/VeREF+/CA4/A4/P1.4 (io), 7 TMS/SCLK/TA0.0/CA5/A5/P1.5 (io), 8 P2.0 (io), 9 P2.1 (io), 10 P2.2 (io), 11 P2.3 (io), 12 P2.4 (io), 13 P2.5 (io), 14 TDI/TCLK/TA0.1/SDO/SCL/CA6/A6/P1.6 (io), 15 TDO/TDI/SDI/SDA/CAOUT/CA7/A7/P1.7 (io), 16 ~{{RST}/NMI/SBWTDIO} (in), 17 SBWTCK/TEST (in), 18 P2.7/XOUT (io), 19 P2.6/XIN/TA0.1 (io), 20 DVSS (power)

## MSP430G2452IPW14
designator *  value MSP430G2452IPW14
ki_keywords: TI MSP430 16-bit mixed signal microcontroller; ki_description: 8kB Flash, 256B RAM, TSSOP-14; ki_fp_filters: TSSOP*4.4x5mm*P0.65mm*; Footprint: Package_SO:TSSOP-14_4.4x5mm_P0.65mm; Supplier: http://www.ti.com/lit/ds/symlink/msp430g2452.pdf
footprint TSSOP-14_4.4x5mm_P0.65mm
pins: 1 DVCC (power), 2 TA0CLK/ACLK/CA0/A0/P1.0 (io), 3 TA0.0/CA1/A1/P1.1 (io), 4 TA0.1/CA2/A2/P1.2 (io), 5 ADC10CLK/VREF-/VeREF-/CAOUT/CA3/A3/P1.3 (io), 6 TCK/SMCLK/TA0.2/VREF+/VeREF+/CA4/A4/P1.4 (io), 7 TMS/SCLK/TA0.0/CA5/A5/P1.5 (io), 8 TDI/TCLK/TA0.1/SDO/SCL/CA6/A6/P1.6 (io), 9 TDO/TDI/SDI/SDA/CAOUT/CA7/A7/P1.7 (io), 10 ~{{RST}/NMI/SBWTDIO} (in), 11 SBWTCK/TEST (in), 12 P2.7/XOUT (io), 13 P2.6/XIN/TA0.1 (io), 14 DVSS (power)

## MSP430G2452IPW20
designator *  value MSP430G2452IPW20
ki_keywords: TI MSP430 16-bit mixed signal microcontroller; ki_description: 8kB Flash, 256B RAM, TSSOP-20; ki_fp_filters: TSSOP*4.4x6.5mm*P0.65mm*; Footprint: Package_SO:TSSOP-20_4.4x6.5mm_P0.65mm; Supplier: http://www.ti.com/lit/ds/symlink/msp430g2452.pdf
footprint TSSOP-20_4.4x6.5mm_P0.65mm
pins: 1 DVCC (power), 2 TA0CLK/ACLK/CA0/A0/P1.0 (io), 3 TA0.0/CA1/A1/P1.1 (io), 4 TA0.1/CA2/A2/P1.2 (io), 5 ADC10CLK/VREF-/VeREF-/CAOUT/CA3/A3/P1.3 (io), 6 TCK/SMCLK/TA0.2/VREF+/VeREF+/CA4/A4/P1.4 (io), 7 TMS/SCLK/TA0.0/CA5/A5/P1.5 (io), 8 P2.0 (io), 9 P2.1 (io), 10 P2.2 (io), 11 P2.3 (io), 12 P2.4 (io), 13 P2.5 (io), 14 TDI/TCLK/TA0.1/SDO/SCL/CA6/A6/P1.6 (io), 15 TDO/TDI/SDI/SDA/CAOUT/CA7/A7/P1.7 (io), 16 ~{{RST}/NMI/SBWTDIO} (in), 17 SBWTCK/TEST (in), 18 P2.7/XOUT (io), 19 P2.6/XIN/TA0.1 (io), 20 DVSS (power)

## MSP430G2452IRSA16
designator *  value MSP430G2452IRSA16
ki_keywords: TI MSP430 16-bit mixed signal microcontroller; ki_description: 8kB Flash, 256B RAM, QFN-16; ki_fp_filters: Texas*S?PVQFN*; Footprint: Package_DFN_QFN:Texas_S-PVQFN-N16_EP2.7x2.7mm; Supplier: http://www.ti.com/lit/ds/symlink/msp430g2452.pdf
footprint Texas_S-PVQFN-N16_EP2.7x2.7mm
pins: 1 TA0CLK/ACLK/A0/CA0/P1.0 (io), 2 TA0.0/A1/CA1/P1.1 (io), 3 TA0.1/A2/CA2/P1.2 (io), 4 ADC10CLK/CAOUT/VREF-/VeREF-/A3/CA3/P1.3 (io), 5 TCK/SMCLK/TA0.2/VREF+/VeREF+/A4/CA4/P1.4 (io), 6 TMS/TA0.0/SCLK/A5/CA5/P1.5 (io), 7 TDI/TCLK/TA0.1/SDO/SCL/A6/CA6/P1.6 (io), 8 TDO/TDI/CAOUT/SDI/SDA/A7/CA7/P1.7 (io), 9 ~{{RST}/NMI/SBWTDIO} (in), 10 SBWTCK/TEST (in), 11 P2.7/XOUT (io), 12 P2.6/XIN/TA0.1 (io), 13 AVSS (power), 14 DVSS (power), 15 AVCC (power), 16 DVCC (power)

## MSP430G2453IN20
designator *  value MSP430G2453IN20
ki_keywords: TI MSP430 16-bit mixed signal microcontroller; ki_description: 8kB Flash, 512B RAM, DIP-20; ki_fp_filters: DIP*W7.62mm*; Footprint: Package_DIP:DIP-20_W7.62mm; Supplier: http://www.ti.com/lit/ds/symlink/msp430g2453.pdf
footprint DIP-20_W7.62mm
pins: 1 DVCC (power), 2 TA0CLK/ACLK/CA0/A0/P1.0 (io), 3 UCA0RXD/UCA0SOMI/TA0.0/CA1/A1/P1.1 (io), 4 UCA0TXD/UCA0SIMO/TA0.1/CA2/A2/P1.2 (io), 5 CAOUT/VREF-/VeREF-/CA3/A3/P1.3 (io), 6 TCK/SMCLK/UCB0STE/UCA0CLK/VREF+/VeREF+/CA4/A4/P1.4 (io), 7 TMS/UCB0CLK/UCA0STE/TA0.0/CA5/A5/P1.5 (io), 8 P2.0/TA1.0 (io), 9 P2.1/TA1.1 (io), 10 P2.2/TA1.1 (io), 11 P2.3/TA1.0 (io), 12 P2.4/TA1.2 (io), 13 P2.5/TA1.2 (io), 14 TDI/TCLK/UCB0SOMI/UCB0SCL/TA0.1/CA6/A6/P1.6 (io), 15 TDO/TDI/UCB0SIMO/UCB0SDA/CAOUT/CA7/A7/P1.7 (io), 16 ~{{RST}/NMI/SBWTDIO} (in), 17 TEST/SBWTCK (in), 18 P2.7/XOUT (io), 19 P2.6/XIN/TA0.1 (io), 20 DVSS (power)

## MSP430G2453IPW20
designator *  value MSP430G2453IPW20
ki_keywords: TI MSP430 16-bit mixed signal microcontroller; ki_description: 8kB Flash, 512B RAM, TSSOP-20; ki_fp_filters: TSSOP*4.4x6.5mm*P0.65mm*; Footprint: Package_SO:TSSOP-20_4.4x6.5mm_P0.65mm; Supplier: http://www.ti.com/lit/ds/symlink/msp430g2453.pdf
footprint TSSOP-20_4.4x6.5mm_P0.65mm
pins: 1 DVCC (power), 2 TA0CLK/ACLK/CA0/A0/P1.0 (io), 3 UCA0RXD/UCA0SOMI/TA0.0/CA1/A1/P1.1 (io), 4 UCA0TXD/UCA0SIMO/TA0.1/CA2/A2/P1.2 (io), 5 CAOUT/VREF-/VeREF-/CA3/A3/P1.3 (io), 6 TCK/SMCLK/UCB0STE/UCA0CLK/VREF+/VeREF+/CA4/A4/P1.4 (io), 7 TMS/UCB0CLK/UCA0STE/TA0.0/CA5/A5/P1.5 (io), 8 P2.0/TA1.0 (io), 9 P2.1/TA1.1 (io), 10 P2.2/TA1.1 (io), 11 P2.3/TA1.0 (io), 12 P2.4/TA1.2 (io), 13 P2.5/TA1.2 (io), 14 TDI/TCLK/UCB0SOMI/UCB0SCL/TA0.1/CA6/A6/P1.6 (io), 15 TDO/TDI/UCB0SIMO/UCB0SDA/CAOUT/CA7/A7/P1.7 (io), 16 ~{{RST}/NMI/SBWTDIO} (in), 17 TEST/SBWTCK (in), 18 P2.7/XOUT (io), 19 P2.6/XIN/TA0.1 (io), 20 DVSS (power)

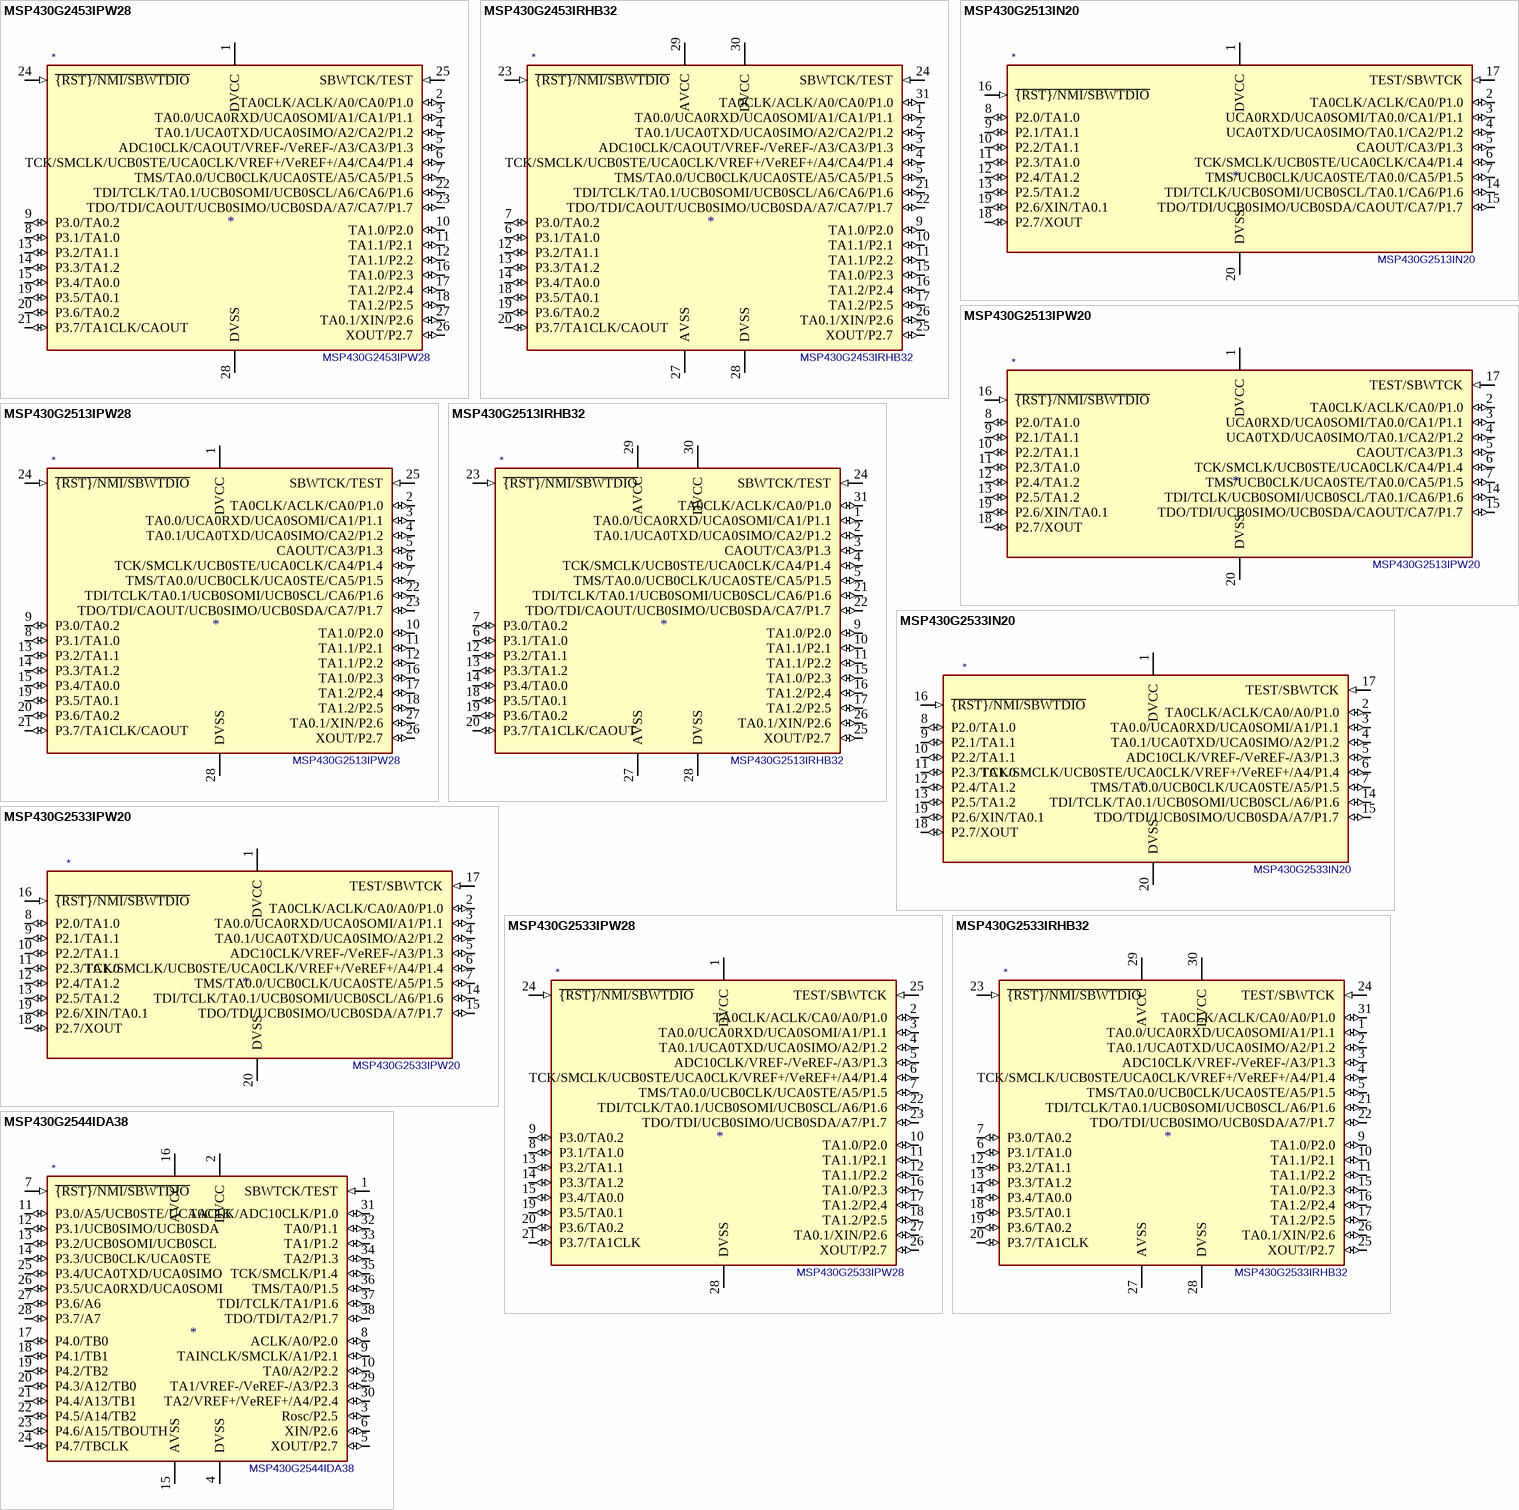
[diagram p32: symbols MSP430G2453IPW28 to MSP430G2544IDA38]

## MSP430G2453IPW28
designator *  value MSP430G2453IPW28
ki_keywords: TI MSP430 16-bit mixed signal microcontroller; ki_description: 8kB Flash, 512B RAM, TSSOP-28; ki_fp_filters: TSSOP*4.4x9.7mm*P0.65mm*; Footprint: Package_SO:TSSOP-28_4.4x9.7mm_P0.65mm; Supplier: http://www.ti.com/lit/ds/symlink/msp430g2453.pdf
footprint TSSOP-28_4.4x9.7mm_P0.65mm
pins: 1 DVCC (power), 2 TA0CLK/ACLK/A0/CA0/P1.0 (io), 3 TA0.0/UCA0RXD/UCA0SOMI/A1/CA1/P1.1 (io), 4 TA0.1/UCA0TXD/UCA0SIMO/A2/CA2/P1.2 (io), 5 ADC10CLK/CAOUT/VREF-/VeREF-/A3/CA3/P1.3 (io), 6 TCK/SMCLK/UCB0STE/UCA0CLK/VREF+/VeREF+/A4/CA4/P1.4 (io), 7 TMS/TA0.0/UCB0CLK/UCA0STE/A5/CA5/P1.5 (io), 8 P3.1/TA1.0 (io), 9 P3.0/TA0.2 (io), 10 TA1.0/P2.0 (io), 11 TA1.1/P2.1 (io), 12 TA1.1/P2.2 (io), 13 P3.2/TA1.1 (io), 14 P3.3/TA1.2 (io), 15 P3.4/TA0.0 (io), 16 TA1.0/P2.3 (io), 17 TA1.2/P2.4 (io), 18 TA1.2/P2.5 (io), 19 P3.5/TA0.1 (io), 20 P3.6/TA0.2 (io), 21 P3.7/TA1CLK/CAOUT (io), 22 TDI/TCLK/TA0.1/UCB0SOMI/UCB0SCL/A6/CA6/P1.6 (io), 23 TDO/TDI/CAOUT/UCB0SIMO/UCB0SDA/A7/CA7/P1.7 (io), 24 ~{{RST}/NMI/SBWTDIO} (in), 25 SBWTCK/TEST (in), 26 XOUT/P2.7 (io), 27 TA0.1/XIN/P2.6 (io), 28 DVSS (power)

## MSP430G2453IRHB32
designator *  value MSP430G2453IRHB32
ki_keywords: TI MSP430 16-bit mixed signal microcontroller; ki_description: 8kB Flash, 512B RAM, QFN-32; ki_fp_filters: Texas*S?PVQFN*; Footprint: Package_DFN_QFN:Texas_S-PVQFN-N32_EP3.45x3.45mm; Supplier: http://www.ti.com/lit/ds/symlink/msp430g2453.pdf
footprint Texas_S-PVQFN-N32_EP3.45x3.45mm
pins: 1 TA0.0/UCA0RXD/UCA0SOMI/A1/CA1/P1.1 (io), 2 TA0.1/UCA0TXD/UCA0SIMO/A2/CA2/P1.2 (io), 3 ADC10CLK/CAOUT/VREF-/VeREF-/A3/CA3/P1.3 (io), 4 TCK/SMCLK/UCB0STE/UCA0CLK/VREF+/VeREF+/A4/CA4/P1.4 (io), 5 TMS/TA0.0/UCB0CLK/UCA0STE/A5/CA5/P1.5 (io), 6 P3.1/TA1.0 (io), 7 P3.0/TA0.2 (io), 9 TA1.0/P2.0 (io), 10 TA1.1/P2.1 (io), 11 TA1.1/P2.2 (io), 12 P3.2/TA1.1 (io), 13 P3.3/TA1.2 (io), 14 P3.4/TA0.0 (io), 15 TA1.0/P2.3 (io), 16 TA1.2/P2.4 (io), 17 TA1.2/P2.5 (io), 18 P3.5/TA0.1 (io), 19 P3.6/TA0.2 (io), 20 P3.7/TA1CLK/CAOUT (io), 21 TDI/TCLK/TA0.1/UCB0SOMI/UCB0SCL/A6/CA6/P1.6 (io), 22 TDO/TDI/CAOUT/UCB0SIMO/UCB0SDA/A7/CA7/P1.7 (io), 23 ~{{RST}/NMI/SBWTDIO} (in), 24 SBWTCK/TEST (in), 25 XOUT/P2.7 (io), 26 TA0.1/XIN/P2.6 (io), 27 AVSS (power), 28 DVSS (power), 29 AVCC (power), 30 DVCC (power), 31 TA0CLK/ACLK/A0/CA0/P1.0 (io)

## MSP430G2513IN20
designator *  value MSP430G2513IN20
ki_keywords: TI MSP430 16-bit mixed signal microcontroller; ki_description: 16kB Flash, 512B RAM, DIP-20; ki_fp_filters: DIP*W7.62mm*; Footprint: Package_DIP:DIP-20_W7.62mm; Supplier: http://www.ti.com/lit/ds/symlink/msp430g2513.pdf
footprint DIP-20_W7.62mm
pins: 1 DVCC (power), 2 TA0CLK/ACLK/CA0/P1.0 (io), 3 UCA0RXD/UCA0SOMI/TA0.0/CA1/P1.1 (io), 4 UCA0TXD/UCA0SIMO/TA0.1/CA2/P1.2 (io), 5 CAOUT/CA3/P1.3 (io), 6 TCK/SMCLK/UCB0STE/UCA0CLK/CA4/P1.4 (io), 7 TMS/UCB0CLK/UCA0STE/TA0.0/CA5/P1.5 (io), 8 P2.0/TA1.0 (io), 9 P2.1/TA1.1 (io), 10 P2.2/TA1.1 (io), 11 P2.3/TA1.0 (io), 12 P2.4/TA1.2 (io), 13 P2.5/TA1.2 (io), 14 TDI/TCLK/UCB0SOMI/UCB0SCL/TA0.1/CA6/P1.6 (io), 15 TDO/TDI/UCB0SIMO/UCB0SDA/CAOUT/CA7/P1.7 (io), 16 ~{{RST}/NMI/SBWTDIO} (in), 17 TEST/SBWTCK (in), 18 P2.7/XOUT (io), 19 P2.6/XIN/TA0.1 (io), 20 DVSS (power)

## MSP430G2513IPW20
designator *  value MSP430G2513IPW20
ki_keywords: TI MSP430 16-bit mixed signal microcontroller; ki_description: 16kB Flash, 512B RAM, TSSOP-20; ki_fp_filters: TSSOP*4.4x6.5mm*P0.65mm*; Footprint: Package_SO:TSSOP-20_4.4x6.5mm_P0.65mm; Supplier: http://www.ti.com/lit/ds/symlink/msp430g2513.pdf
footprint TSSOP-20_4.4x6.5mm_P0.65mm
pins: 1 DVCC (power), 2 TA0CLK/ACLK/CA0/P1.0 (io), 3 UCA0RXD/UCA0SOMI/TA0.0/CA1/P1.1 (io), 4 UCA0TXD/UCA0SIMO/TA0.1/CA2/P1.2 (io), 5 CAOUT/CA3/P1.3 (io), 6 TCK/SMCLK/UCB0STE/UCA0CLK/CA4/P1.4 (io), 7 TMS/UCB0CLK/UCA0STE/TA0.0/CA5/P1.5 (io), 8 P2.0/TA1.0 (io), 9 P2.1/TA1.1 (io), 10 P2.2/TA1.1 (io), 11 P2.3/TA1.0 (io), 12 P2.4/TA1.2 (io), 13 P2.5/TA1.2 (io), 14 TDI/TCLK/UCB0SOMI/UCB0SCL/TA0.1/CA6/P1.6 (io), 15 TDO/TDI/UCB0SIMO/UCB0SDA/CAOUT/CA7/P1.7 (io), 16 ~{{RST}/NMI/SBWTDIO} (in), 17 TEST/SBWTCK (in), 18 P2.7/XOUT (io), 19 P2.6/XIN/TA0.1 (io), 20 DVSS (power)

## MSP430G2513IPW28
designator *  value MSP430G2513IPW28
ki_keywords: TI MSP430 16-bit mixed signal microcontroller; ki_description: 16kB Flash, 512B RAM, TSSOP-28; ki_fp_filters: TSSOP*4.4x9.7mm*P0.65mm*; Footprint: Package_SO:TSSOP-28_4.4x9.7mm_P0.65mm; Supplier: http://www.ti.com/lit/ds/symlink/msp430g2513.pdf
footprint TSSOP-28_4.4x9.7mm_P0.65mm
pins: 1 DVCC (power), 2 TA0CLK/ACLK/CA0/P1.0 (io), 3 TA0.0/UCA0RXD/UCA0SOMI/CA1/P1.1 (io), 4 TA0.1/UCA0TXD/UCA0SIMO/CA2/P1.2 (io), 5 CAOUT/CA3/P1.3 (io), 6 TCK/SMCLK/UCB0STE/UCA0CLK/CA4/P1.4 (io), 7 TMS/TA0.0/UCB0CLK/UCA0STE/CA5/P1.5 (io), 8 P3.1/TA1.0 (io), 9 P3.0/TA0.2 (io), 10 TA1.0/P2.0 (io), 11 TA1.1/P2.1 (io), 12 TA1.1/P2.2 (io), 13 P3.2/TA1.1 (io), 14 P3.3/TA1.2 (io), 15 P3.4/TA0.0 (io), 16 TA1.0/P2.3 (io), 17 TA1.2/P2.4 (io), 18 TA1.2/P2.5 (io), 19 P3.5/TA0.1 (io), 20 P3.6/TA0.2 (io), 21 P3.7/TA1CLK/CAOUT (io), 22 TDI/TCLK/TA0.1/UCB0SOMI/UCB0SCL/CA6/P1.6 (io), 23 TDO/TDI/CAOUT/UCB0SIMO/UCB0SDA/CA7/P1.7 (io), 24 ~{{RST}/NMI/SBWTDIO} (in), 25 SBWTCK/TEST (in), 26 XOUT/P2.7 (io), 27 TA0.1/XIN/P2.6 (io), 28 DVSS (power)

## MSP430G2513IRHB32
designator *  value MSP430G2513IRHB32
ki_keywords: TI MSP430 16-bit mixed signal microcontroller; ki_description: 16kB Flash, 512B RAM, QFN-32; ki_fp_filters: Texas*S?PVQFN*; Footprint: Package_DFN_QFN:Texas_S-PVQFN-N32_EP3.45x3.45mm; Supplier: http://www.ti.com/lit/ds/symlink/msp430g2513.pdf
footprint Texas_S-PVQFN-N32_EP3.45x3.45mm
pins: 1 TA0.0/UCA0RXD/UCA0SOMI/CA1/P1.1 (io), 2 TA0.1/UCA0TXD/UCA0SIMO/CA2/P1.2 (io), 3 CAOUT/CA3/P1.3 (io), 4 TCK/SMCLK/UCB0STE/UCA0CLK/CA4/P1.4 (io), 5 TMS/TA0.0/UCB0CLK/UCA0STE/CA5/P1.5 (io), 6 P3.1/TA1.0 (io), 7 P3.0/TA0.2 (io), 9 TA1.0/P2.0 (io), 10 TA1.1/P2.1 (io), 11 TA1.1/P2.2 (io), 12 P3.2/TA1.1 (io), 13 P3.3/TA1.2 (io), 14 P3.4/TA0.0 (io), 15 TA1.0/P2.3 (io), 16 TA1.2/P2.4 (io), 17 TA1.2/P2.5 (io), 18 P3.5/TA0.1 (io), 19 P3.6/TA0.2 (io), 20 P3.7/TA1CLK/CAOUT (io), 21 TDI/TCLK/TA0.1/UCB0SOMI/UCB0SCL/CA6/P1.6 (io), 22 TDO/TDI/CAOUT/UCB0SIMO/UCB0SDA/CA7/P1.7 (io), 23 ~{{RST}/NMI/SBWTDIO} (in), 24 SBWTCK/TEST (in), 25 XOUT/P2.7 (io), 26 TA0.1/XIN/P2.6 (io), 27 AVSS (power), 28 DVSS (power), 29 AVCC (power), 30 DVCC (power), 31 TA0CLK/ACLK/CA0/P1.0 (io)

## MSP430G2533IN20
designator *  value MSP430G2533IN20
ki_keywords: TI MSP430 16-bit mixed signal microcontroller; ki_description: 16kB Flash, 512B RAM, DIP-20; ki_fp_filters: DIP*W7.62mm*; Footprint: Package_DIP:DIP-20_W7.62mm; Supplier: http://www.ti.com/lit/ds/symlink/msp430g2533.pdf
footprint DIP-20_W7.62mm
pins: 1 DVCC (power), 2 TA0CLK/ACLK/CA0/A0/P1.0 (io), 3 TA0.0/UCA0RXD/UCA0SOMI/A1/P1.1 (io), 4 TA0.1/UCA0TXD/UCA0SIMO/A2/P1.2 (io), 5 ADC10CLK/VREF-/VeREF-/A3/P1.3 (io), 6 TCK/SMCLK/UCB0STE/UCA0CLK/VREF+/VeREF+/A4/P1.4 (io), 7 TMS/TA0.0/UCB0CLK/UCA0STE/A5/P1.5 (io), 8 P2.0/TA1.0 (io), 9 P2.1/TA1.1 (io), 10 P2.2/TA1.1 (io), 11 P2.3/TA1.0 (io), 12 P2.4/TA1.2 (io), 13 P2.5/TA1.2 (io), 14 TDI/TCLK/TA0.1/UCB0SOMI/UCB0SCL/A6/P1.6 (io), 15 TDO/TDI/UCB0SIMO/UCB0SDA/A7/P1.7 (io), 16 ~{{RST}/NMI/SBWTDIO} (in), 17 TEST/SBWTCK (in), 18 P2.7/XOUT (io), 19 P2.6/XIN/TA0.1 (io), 20 DVSS (power)

## MSP430G2533IPW20
designator *  value MSP430G2533IPW20
ki_keywords: TI MSP430 16-bit mixed signal microcontroller; ki_description: 16kB Flash, 512B RAM, TSSOP-20; ki_fp_filters: TSSOP*4.4x6.5mm*P0.65mm*; Footprint: Package_SO:TSSOP-20_4.4x6.5mm_P0.65mm; Supplier: http://www.ti.com/lit/ds/symlink/msp430g2533.pdf
footprint TSSOP-20_4.4x6.5mm_P0.65mm
pins: 1 DVCC (power), 2 TA0CLK/ACLK/CA0/A0/P1.0 (io), 3 TA0.0/UCA0RXD/UCA0SOMI/A1/P1.1 (io), 4 TA0.1/UCA0TXD/UCA0SIMO/A2/P1.2 (io), 5 ADC10CLK/VREF-/VeREF-/A3/P1.3 (io), 6 TCK/SMCLK/UCB0STE/UCA0CLK/VREF+/VeREF+/A4/P1.4 (io), 7 TMS/TA0.0/UCB0CLK/UCA0STE/A5/P1.5 (io), 8 P2.0/TA1.0 (io), 9 P2.1/TA1.1 (io), 10 P2.2/TA1.1 (io), 11 P2.3/TA1.0 (io), 12 P2.4/TA1.2 (io), 13 P2.5/TA1.2 (io), 14 TDI/TCLK/TA0.1/UCB0SOMI/UCB0SCL/A6/P1.6 (io), 15 TDO/TDI/UCB0SIMO/UCB0SDA/A7/P1.7 (io), 16 ~{{RST}/NMI/SBWTDIO} (in), 17 TEST/SBWTCK (in), 18 P2.7/XOUT (io), 19 P2.6/XIN/TA0.1 (io), 20 DVSS (power)

## MSP430G2533IPW28
designator *  value MSP430G2533IPW28
ki_keywords: TI MSP430 16-bit mixed signal microcontroller; ki_description: 16kB Flash, 512B RAM, TSSOP-28; ki_fp_filters: TSSOP*4.4x9.7mm*P0.65mm*; Footprint: Package_SO:TSSOP-28_4.4x9.7mm_P0.65mm; Supplier: http://www.ti.com/lit/ds/symlink/msp430g2533.pdf
footprint TSSOP-28_4.4x9.7mm_P0.65mm
pins: 1 DVCC (power), 2 TA0CLK/ACLK/CA0/A0/P1.0 (io), 3 TA0.0/UCA0RXD/UCA0SOMI/A1/P1.1 (io), 4 TA0.1/UCA0TXD/UCA0SIMO/A2/P1.2 (io), 5 ADC10CLK/VREF-/VeREF-/A3/P1.3 (io), 6 TCK/SMCLK/UCB0STE/UCA0CLK/VREF+/VeREF+/A4/P1.4 (io), 7 TMS/TA0.0/UCB0CLK/UCA0STE/A5/P1.5 (io), 8 P3.1/TA1.0 (io), 9 P3.0/TA0.2 (io), 10 TA1.0/P2.0 (io), 11 TA1.1/P2.1 (io), 12 TA1.1/P2.2 (io), 13 P3.2/TA1.1 (io), 14 P3.3/TA1.2 (io), 15 P3.4/TA0.0 (io), 16 TA1.0/P2.3 (io), 17 TA1.2/P2.4 (io), 18 TA1.2/P2.5 (io), 19 P3.5/TA0.1 (io), 20 P3.6/TA0.2 (io), 21 P3.7/TA1CLK (io), 22 TDI/TCLK/TA0.1/UCB0SOMI/UCB0SCL/A6/P1.6 (io), 23 TDO/TDI/UCB0SIMO/UCB0SDA/A7/P1.7 (io), 24 ~{{RST}/NMI/SBWTDIO} (in), 25 TEST/SBWTCK (in), 26 XOUT/P2.7 (io), 27 TA0.1/XIN/P2.6 (io), 28 DVSS (power)

## MSP430G2533IRHB32
designator *  value MSP430G2533IRHB32
ki_keywords: TI MSP430 16-bit mixed signal microcontroller; ki_description: 16kB Flash, 512B RAM, QFN-32; ki_fp_filters: Texas*S?PVQFN*; Footprint: Package_DFN_QFN:Texas_S-PVQFN-N32_EP3.45x3.45mm; Supplier: http://www.ti.com/lit/ds/symlink/msp430g2533.pdf
footprint Texas_S-PVQFN-N32_EP3.45x3.45mm
pins: 1 TA0.0/UCA0RXD/UCA0SOMI/A1/P1.1 (io), 2 TA0.1/UCA0TXD/UCA0SIMO/A2/P1.2 (io), 3 ADC10CLK/VREF-/VeREF-/A3/P1.3 (io), 4 TCK/SMCLK/UCB0STE/UCA0CLK/VREF+/VeREF+/A4/P1.4 (io), 5 TMS/TA0.0/UCB0CLK/UCA0STE/A5/P1.5 (io), 6 P3.1/TA1.0 (io), 7 P3.0/TA0.2 (io), 9 TA1.0/P2.0 (io), 10 TA1.1/P2.1 (io), 11 TA1.1/P2.2 (io), 12 P3.2/TA1.1 (io), 13 P3.3/TA1.2 (io), 14 P3.4/TA0.0 (io), 15 TA1.0/P2.3 (io), 16 TA1.2/P2.4 (io), 17 TA1.2/P2.5 (io), 18 P3.5/TA0.1 (io), 19 P3.6/TA0.2 (io), 20 P3.7/TA1CLK (io), 21 TDI/TCLK/TA0.1/UCB0SOMI/UCB0SCL/A6/P1.6 (io), 22 TDO/TDI/UCB0SIMO/UCB0SDA/A7/P1.7 (io), 23 ~{{RST}/NMI/SBWTDIO} (in), 24 TEST/SBWTCK (in), 25 XOUT/P2.7 (io), 26 TA0.1/XIN/P2.6 (io), 27 AVSS (power), 28 DVSS (power), 29 AVCC (power), 30 DVCC (power), 31 TA0CLK/ACLK/CA0/A0/P1.0 (io)

## MSP430G2544IDA38
designator *  value MSP430G2544IDA38
ki_keywords: TI MSP430 16-bit mixed signal microcontroller; ki_description: 16kB + 256B Flash, 512B RAM, TSSOP-38; ki_fp_filters: TSSOP*6.1x12.5mm*P0.65mm*; Footprint: Package_SO:TSSOP-38_6.1x12.5mm_P0.65mm; Supplier: http://www.ti.com/lit/ds/symlink/msp430g2544.pdf
footprint TSSOP-38_6.1x12.5mm_P0.65mm
pins: 1 SBWTCK/TEST (in), 2 DVCC (power), 3 Rosc/P2.5 (io), 4 DVSS (power), 5 XOUT/P2.7 (io), 6 XIN/P2.6 (io), 7 ~{{RST}/NMI/SBWTDIO} (in), 8 ACLK/A0/P2.0 (io), 9 TAINCLK/SMCLK/A1/P2.1 (io), 10 TA0/A2/P2.2 (io), 11 P3.0/A5/UCB0STE/UCA0CLK (io), 12 P3.1/UCB0SIMO/UCB0SDA (io), 13 P3.2/UCB0SOMI/UCB0SCL (io), 14 P3.3/UCB0CLK/UCA0STE (io), 15 AVSS (power), 16 AVCC (power), 17 P4.0/TB0 (io), 18 P4.1/TB1 (io), 19 P4.2/TB2 (io), 20 P4.3/A12/TB0 (io), 21 P4.4/A13/TB1 (io), 22 P4.5/A14/TB2 (io), 23 P4.6/A15/TBOUTH (io), 24 P4.7/TBCLK (io), 25 P3.4/UCA0TXD/UCA0SIMO (io), 26 P3.5/UCA0RXD/UCA0SOMI (io), 27 P3.6/A6 (io), 28 P3.7/A7 (io), 29 TA1/VREF-/VeREF-/A3/P2.3 (io), 30 TA2/VREF+/VeREF+/A4/P2.4 (io), 31 TACLK/ADC10CLK/P1.0 (io), 32 TA0/P1.1 (io), 33 TA1/P1.2 (io), 34 TA2/P1.3 (io), 35 TCK/SMCLK/P1.4 (io), 36 TMS/TA0/P1.5 (io), 37 TDI/TCLK/TA1/P1.6 (io), 38 TDO/TDI/TA2/P1.7 (io)

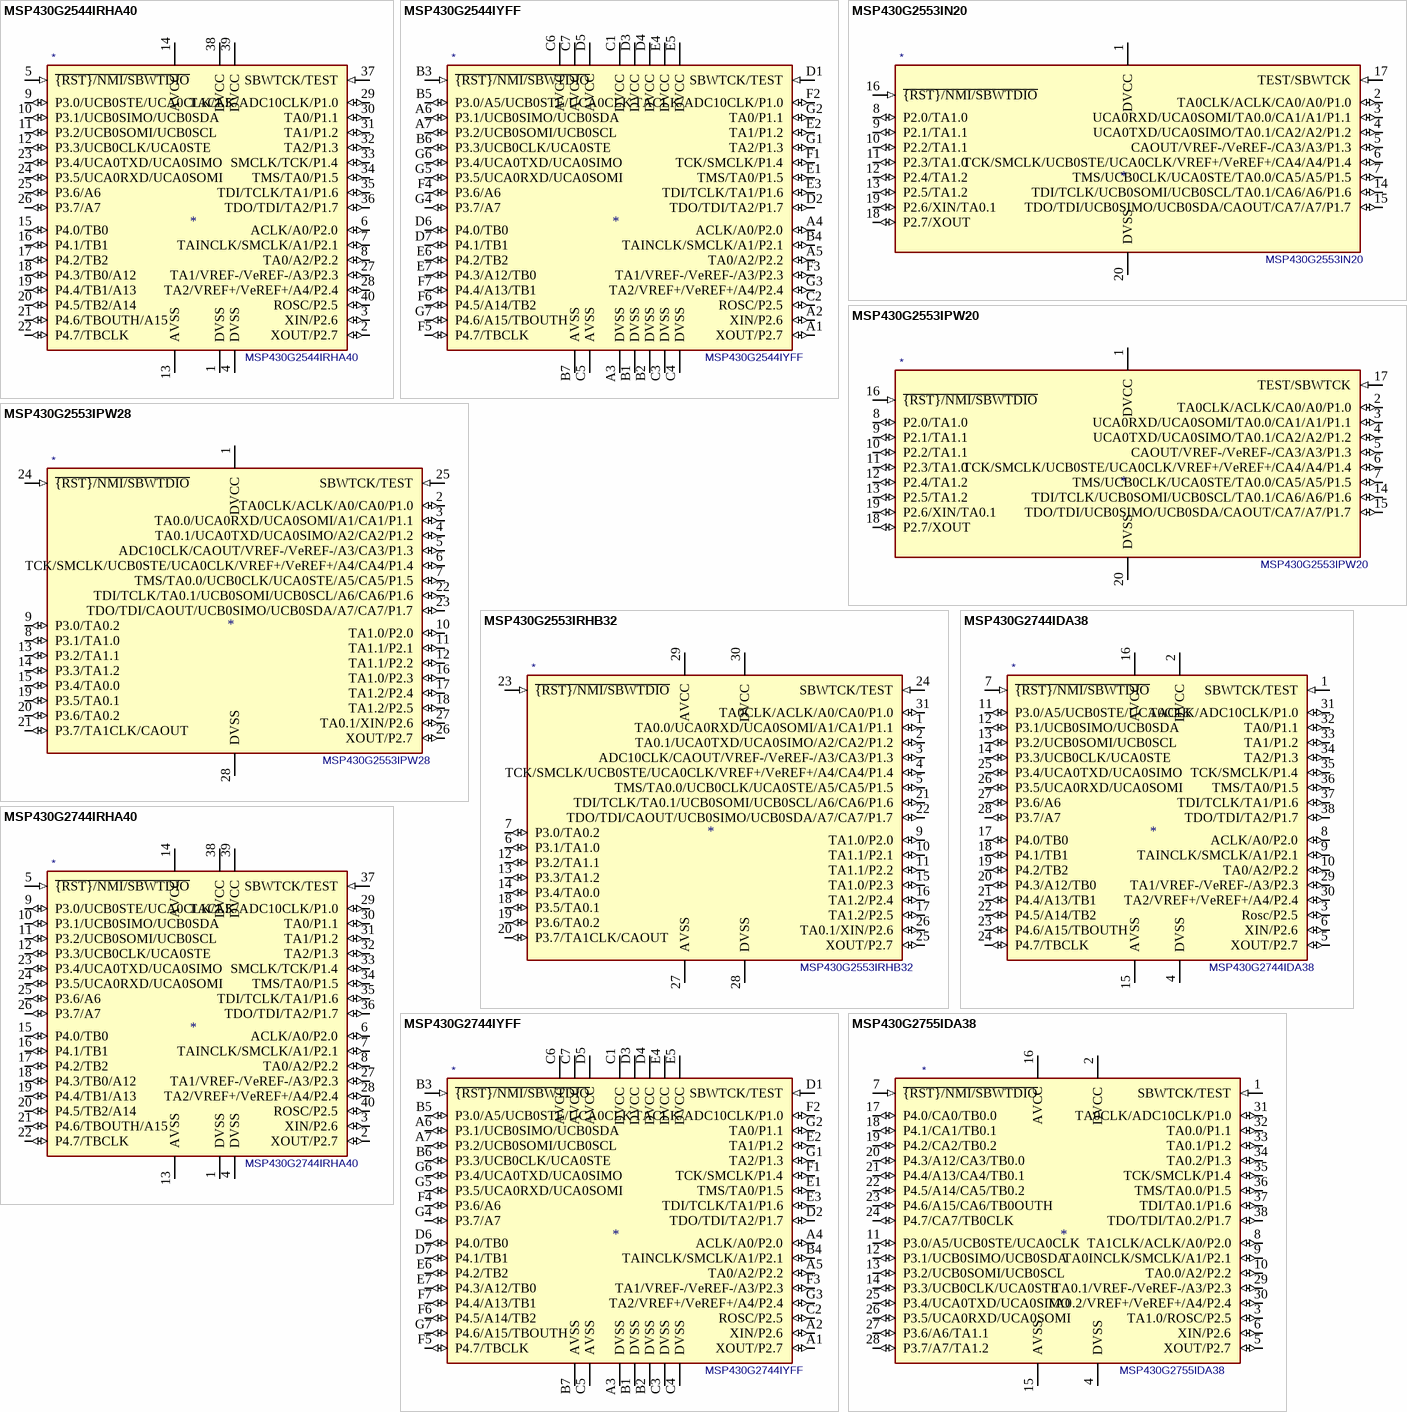
[diagram p33: symbols MSP430G2544IRHA40 to MSP430G2755IDA38]

## MSP430G2544IRHA40
designator *  value MSP430G2544IRHA40
ki_keywords: TI MSP430 16-bit mixed signal microcontroller; ki_description: 16kB + 256B Flash, 512B RAM, QFN-40; ki_fp_filters: Texas*S?PVQFN*; Footprint: Package_DFN_QFN:Texas_S-PVQFN-N40_EP4.15x4.15mm; Supplier: http://www.ti.com/lit/ds/symlink/msp430g2544.pdf
footprint Texas_S-PVQFN-N40_EP4.15x4.15mm
pins: 1 DVSS (power), 2 XOUT/P2.7 (io), 3 XIN/P2.6 (io), 4 DVSS (power), 5 ~{{RST}/NMI/SBWTDIO} (in), 6 ACLK/A0/P2.0 (io), 7 TAINCLK/SMCLK/A1/P2.1 (io), 8 TA0/A2/P2.2 (io), 9 P3.0/UCB0STE/UCA0CLK/A5 (io), 10 P3.1/UCB0SIMO/UCB0SDA (io), 11 P3.2/UCB0SOMI/UCB0SCL (io), 12 P3.3/UCB0CLK/UCA0STE (io), 13 AVSS (power), 14 AVCC (power), 15 P4.0/TB0 (io), 16 P4.1/TB1 (io), 17 P4.2/TB2 (io), 18 P4.3/TB0/A12 (io), 19 P4.4/TB1/A13 (io), 20 P4.5/TB2/A14 (io), 21 P4.6/TBOUTH/A15 (io), 22 P4.7/TBCLK (io), 23 P3.4/UCA0TXD/UCA0SIMO (io), 24 P3.5/UCA0RXD/UCA0SOMI (io), 25 P3.6/A6 (io), 26 P3.7/A7 (io), 27 TA1/VREF-/VeREF-/A3/P2.3 (io), 28 TA2/VREF+/VeREF+/A4/P2.4 (io), 29 TACLK/ADC10CLK/P1.0 (io), 30 TA0/P1.1 (io), 31 TA1/P1.2 (io), 32 TA2/P1.3 (io), 33 SMCLK/TCK/P1.4 (io), 34 TMS/TA0/P1.5 (io), 35 TDI/TCLK/TA1/P1.6 (io), 36 TDO/TDI/TA2/P1.7 (io), 37 SBWTCK/TEST (in), 38 DVCC (power), 39 DVCC (power), 40 ROSC/P2.5 (io)

## MSP430G2544IYFF
designator *  value MSP430G2544IYFF
ki_keywords: TI MSP430 16-bit mixed signal microcontroller; ki_description: 16kB + 256B Flash, 512B RAM, BGA-49; ki_fp_filters: Texas*DSBGA*3.33x3.488mm*Layout7x7*P0.4mm*; Footprint: Package_BGA:Texas_DSBGA-49_3.33x3.488mm_Layout7x7_P0.4mm; Supplier: http://www.ti.com/lit/ds/symlink/msp430g2544.pdf
footprint Texas_DSBGA-49_3.33x3.488mm_Layout7x7_P0.4mm
pins: A1 XOUT/P2.7 (io), A2 XIN/P2.6 (io), A3 DVSS (power), A4 ACLK/A0/P2.0 (io), A5 TA0/A2/P2.2 (io), A6 P3.1/UCB0SIMO/UCB0SDA (io), A7 P3.2/UCB0SOMI/UCB0SCL (io), B1 DVSS (power), B2 DVSS (power), B3 ~{{RST}/NMI/SBWTDIO} (in), B4 TAINCLK/SMCLK/A1/P2.1 (io), B5 P3.0/A5/UCB0STE/UCA0CLK (io), B6 P3.3/UCB0CLK/UCA0STE (io), B7 AVSS (power), C1 DVCC (power), C2 ROSC/P2.5 (io), C3 DVSS (power), C4 DVSS (power), C5 AVSS (power), C6 AVCC (power), C7 AVCC (power), D1 SBWTCK/TEST (in), D2 TDO/TDI/TA2/P1.7 (io), D3 DVCC (power), D4 DVCC (power), D5 AVCC (power), D6 P4.0/TB0 (io), D7 P4.1/TB1 (io), E1 TMS/TA0/P1.5 (io), E2 TA1/P1.2 (io), E3 TDI/TCLK/TA1/P1.6 (io), E4 DVCC (power), E5 DVCC (power), E6 P4.2/TB2 (io), E7 P4.3/A12/TB0 (io), F1 TCK/SMCLK/P1.4 (io), F2 TACLK/ADC10CLK/P1.0 (io), F3 TA1/VREF-/VeREF-/A3/P2.3 (io), F4 P3.6/A6 (io), F5 P4.7/TBCLK (io), F6 P4.5/A14/TB2 (io), F7 P4.4/A13/TB1 (io), G1 TA2/P1.3 (io), G2 TA0/P1.1 (io), G3 TA2/VREF+/VeREF+/A4/P2.4 (io), G4 P3.7/A7 (io), G5 P3.5/UCA0RXD/UCA0SOMI (io), G6 P3.4/UCA0TXD/UCA0SIMO (io), G7 P4.6/A15/TBOUTH (io)

## MSP430G2553IN20
designator *  value MSP430G2553IN20
ki_keywords: TI MSP430 16-bit mixed signal microcontroller; ki_description: 16kB Flash, 512B RAM, DIP-20; ki_fp_filters: DIP*W7.62mm*; Footprint: Package_DIP:DIP-20_W7.62mm; Supplier: http://www.ti.com/lit/ds/symlink/msp430g2553.pdf
footprint DIP-20_W7.62mm
pins: 1 DVCC (power), 2 TA0CLK/ACLK/CA0/A0/P1.0 (io), 3 UCA0RXD/UCA0SOMI/TA0.0/CA1/A1/P1.1 (io), 4 UCA0TXD/UCA0SIMO/TA0.1/CA2/A2/P1.2 (io), 5 CAOUT/VREF-/VeREF-/CA3/A3/P1.3 (io), 6 TCK/SMCLK/UCB0STE/UCA0CLK/VREF+/VeREF+/CA4/A4/P1.4 (io), 7 TMS/UCB0CLK/UCA0STE/TA0.0/CA5/A5/P1.5 (io), 8 P2.0/TA1.0 (io), 9 P2.1/TA1.1 (io), 10 P2.2/TA1.1 (io), 11 P2.3/TA1.0 (io), 12 P2.4/TA1.2 (io), 13 P2.5/TA1.2 (io), 14 TDI/TCLK/UCB0SOMI/UCB0SCL/TA0.1/CA6/A6/P1.6 (io), 15 TDO/TDI/UCB0SIMO/UCB0SDA/CAOUT/CA7/A7/P1.7 (io), 16 ~{{RST}/NMI/SBWTDIO} (in), 17 TEST/SBWTCK (in), 18 P2.7/XOUT (io), 19 P2.6/XIN/TA0.1 (io), 20 DVSS (power)

## MSP430G2553IPW20
designator *  value MSP430G2553IPW20
ki_keywords: TI MSP430 16-bit mixed signal microcontroller; ki_description: 16kB Flash, 512B RAM, TSSOP-20; ki_fp_filters: TSSOP*4.4x6.5mm*P0.65mm*; Footprint: Package_SO:TSSOP-20_4.4x6.5mm_P0.65mm; Supplier: http://www.ti.com/lit/ds/symlink/msp430g2553.pdf
footprint TSSOP-20_4.4x6.5mm_P0.65mm
pins: 1 DVCC (power), 2 TA0CLK/ACLK/CA0/A0/P1.0 (io), 3 UCA0RXD/UCA0SOMI/TA0.0/CA1/A1/P1.1 (io), 4 UCA0TXD/UCA0SIMO/TA0.1/CA2/A2/P1.2 (io), 5 CAOUT/VREF-/VeREF-/CA3/A3/P1.3 (io), 6 TCK/SMCLK/UCB0STE/UCA0CLK/VREF+/VeREF+/CA4/A4/P1.4 (io), 7 TMS/UCB0CLK/UCA0STE/TA0.0/CA5/A5/P1.5 (io), 8 P2.0/TA1.0 (io), 9 P2.1/TA1.1 (io), 10 P2.2/TA1.1 (io), 11 P2.3/TA1.0 (io), 12 P2.4/TA1.2 (io), 13 P2.5/TA1.2 (io), 14 TDI/TCLK/UCB0SOMI/UCB0SCL/TA0.1/CA6/A6/P1.6 (io), 15 TDO/TDI/UCB0SIMO/UCB0SDA/CAOUT/CA7/A7/P1.7 (io), 16 ~{{RST}/NMI/SBWTDIO} (in), 17 TEST/SBWTCK (in), 18 P2.7/XOUT (io), 19 P2.6/XIN/TA0.1 (io), 20 DVSS (power)

## MSP430G2553IPW28
designator *  value MSP430G2553IPW28
ki_keywords: TI MSP430 16-bit mixed signal microcontroller; ki_description: 16kB Flash, 512B RAM, TSSOP-28; ki_fp_filters: TSSOP*4.4x9.7mm*P0.65mm*; Footprint: Package_SO:TSSOP-28_4.4x9.7mm_P0.65mm; Supplier: http://www.ti.com/lit/ds/symlink/msp430g2553.pdf
footprint TSSOP-28_4.4x9.7mm_P0.65mm
pins: 1 DVCC (power), 2 TA0CLK/ACLK/A0/CA0/P1.0 (io), 3 TA0.0/UCA0RXD/UCA0SOMI/A1/CA1/P1.1 (io), 4 TA0.1/UCA0TXD/UCA0SIMO/A2/CA2/P1.2 (io), 5 ADC10CLK/CAOUT/VREF-/VeREF-/A3/CA3/P1.3 (io), 6 TCK/SMCLK/UCB0STE/UCA0CLK/VREF+/VeREF+/A4/CA4/P1.4 (io), 7 TMS/TA0.0/UCB0CLK/UCA0STE/A5/CA5/P1.5 (io), 8 P3.1/TA1.0 (io), 9 P3.0/TA0.2 (io), 10 TA1.0/P2.0 (io), 11 TA1.1/P2.1 (io), 12 TA1.1/P2.2 (io), 13 P3.2/TA1.1 (io), 14 P3.3/TA1.2 (io), 15 P3.4/TA0.0 (io), 16 TA1.0/P2.3 (io), 17 TA1.2/P2.4 (io), 18 TA1.2/P2.5 (io), 19 P3.5/TA0.1 (io), 20 P3.6/TA0.2 (io), 21 P3.7/TA1CLK/CAOUT (io), 22 TDI/TCLK/TA0.1/UCB0SOMI/UCB0SCL/A6/CA6/P1.6 (io), 23 TDO/TDI/CAOUT/UCB0SIMO/UCB0SDA/A7/CA7/P1.7 (io), 24 ~{{RST}/NMI/SBWTDIO} (in), 25 SBWTCK/TEST (in), 26 XOUT/P2.7 (io), 27 TA0.1/XIN/P2.6 (io), 28 DVSS (power)

## MSP430G2553IRHB32
designator *  value MSP430G2553IRHB32
ki_keywords: TI MSP430 16-bit mixed signal microcontroller; ki_description: 16kB Flash, 512B RAM, QFN-32; ki_fp_filters: Texas*S?PVQFN*; Footprint: Package_DFN_QFN:Texas_S-PVQFN-N32_EP3.45x3.45mm; Supplier: http://www.ti.com/lit/ds/symlink/msp430g2553.pdf
footprint Texas_S-PVQFN-N32_EP3.45x3.45mm
pins: 1 TA0.0/UCA0RXD/UCA0SOMI/A1/CA1/P1.1 (io), 2 TA0.1/UCA0TXD/UCA0SIMO/A2/CA2/P1.2 (io), 3 ADC10CLK/CAOUT/VREF-/VeREF-/A3/CA3/P1.3 (io), 4 TCK/SMCLK/UCB0STE/UCA0CLK/VREF+/VeREF+/A4/CA4/P1.4 (io), 5 TMS/TA0.0/UCB0CLK/UCA0STE/A5/CA5/P1.5 (io), 6 P3.1/TA1.0 (io), 7 P3.0/TA0.2 (io), 9 TA1.0/P2.0 (io), 10 TA1.1/P2.1 (io), 11 TA1.1/P2.2 (io), 12 P3.2/TA1.1 (io), 13 P3.3/TA1.2 (io), 14 P3.4/TA0.0 (io), 15 TA1.0/P2.3 (io), 16 TA1.2/P2.4 (io), 17 TA1.2/P2.5 (io), 18 P3.5/TA0.1 (io), 19 P3.6/TA0.2 (io), 20 P3.7/TA1CLK/CAOUT (io), 21 TDI/TCLK/TA0.1/UCB0SOMI/UCB0SCL/A6/CA6/P1.6 (io), 22 TDO/TDI/CAOUT/UCB0SIMO/UCB0SDA/A7/CA7/P1.7 (io), 23 ~{{RST}/NMI/SBWTDIO} (in), 24 SBWTCK/TEST (in), 25 XOUT/P2.7 (io), 26 TA0.1/XIN/P2.6 (io), 27 AVSS (power), 28 DVSS (power), 29 AVCC (power), 30 DVCC (power), 31 TA0CLK/ACLK/A0/CA0/P1.0 (io)

## MSP430G2744IDA38
designator *  value MSP430G2744IDA38
ki_keywords: TI MSP430 16-bit mixed signal microcontroller; ki_description: 32kB + 256B Flash, 1kB RAM, TSSOP-38; ki_fp_filters: TSSOP*6.1x12.5mm*P0.65mm*; Footprint: Package_SO:TSSOP-38_6.1x12.5mm_P0.65mm; Supplier: http://www.ti.com/lit/ds/symlink/msp430g2744.pdf
footprint TSSOP-38_6.1x12.5mm_P0.65mm
pins: 1 SBWTCK/TEST (in), 2 DVCC (power), 3 Rosc/P2.5 (io), 4 DVSS (power), 5 XOUT/P2.7 (io), 6 XIN/P2.6 (io), 7 ~{{RST}/NMI/SBWTDIO} (in), 8 ACLK/A0/P2.0 (io), 9 TAINCLK/SMCLK/A1/P2.1 (io), 10 TA0/A2/P2.2 (io), 11 P3.0/A5/UCB0STE/UCA0CLK (io), 12 P3.1/UCB0SIMO/UCB0SDA (io), 13 P3.2/UCB0SOMI/UCB0SCL (io), 14 P3.3/UCB0CLK/UCA0STE (io), 15 AVSS (power), 16 AVCC (power), 17 P4.0/TB0 (io), 18 P4.1/TB1 (io), 19 P4.2/TB2 (io), 20 P4.3/A12/TB0 (io), 21 P4.4/A13/TB1 (io), 22 P4.5/A14/TB2 (io), 23 P4.6/A15/TBOUTH (io), 24 P4.7/TBCLK (io), 25 P3.4/UCA0TXD/UCA0SIMO (io), 26 P3.5/UCA0RXD/UCA0SOMI (io), 27 P3.6/A6 (io), 28 P3.7/A7 (io), 29 TA1/VREF-/VeREF-/A3/P2.3 (io), 30 TA2/VREF+/VeREF+/A4/P2.4 (io), 31 TACLK/ADC10CLK/P1.0 (io), 32 TA0/P1.1 (io), 33 TA1/P1.2 (io), 34 TA2/P1.3 (io), 35 TCK/SMCLK/P1.4 (io), 36 TMS/TA0/P1.5 (io), 37 TDI/TCLK/TA1/P1.6 (io), 38 TDO/TDI/TA2/P1.7 (io)

## MSP430G2744IRHA40
designator *  value MSP430G2744IRHA40
ki_keywords: TI MSP430 16-bit mixed signal microcontroller; ki_description: 32kB + 256B Flash, 1kB RAM, QFN-40; ki_fp_filters: Texas*S?PVQFN*; Footprint: Package_DFN_QFN:Texas_S-PVQFN-N40_EP4.15x4.15mm; Supplier: http://www.ti.com/lit/ds/symlink/msp430g2744.pdf
footprint Texas_S-PVQFN-N40_EP4.15x4.15mm
pins: 1 DVSS (power), 2 XOUT/P2.7 (io), 3 XIN/P2.6 (io), 4 DVSS (power), 5 ~{{RST}/NMI/SBWTDIO} (in), 6 ACLK/A0/P2.0 (io), 7 TAINCLK/SMCLK/A1/P2.1 (io), 8 TA0/A2/P2.2 (io), 9 P3.0/UCB0STE/UCA0CLK/A5 (io), 10 P3.1/UCB0SIMO/UCB0SDA (io), 11 P3.2/UCB0SOMI/UCB0SCL (io), 12 P3.3/UCB0CLK/UCA0STE (io), 13 AVSS (power), 14 AVCC (power), 15 P4.0/TB0 (io), 16 P4.1/TB1 (io), 17 P4.2/TB2 (io), 18 P4.3/TB0/A12 (io), 19 P4.4/TB1/A13 (io), 20 P4.5/TB2/A14 (io), 21 P4.6/TBOUTH/A15 (io), 22 P4.7/TBCLK (io), 23 P3.4/UCA0TXD/UCA0SIMO (io), 24 P3.5/UCA0RXD/UCA0SOMI (io), 25 P3.6/A6 (io), 26 P3.7/A7 (io), 27 TA1/VREF-/VeREF-/A3/P2.3 (io), 28 TA2/VREF+/VeREF+/A4/P2.4 (io), 29 TACLK/ADC10CLK/P1.0 (io), 30 TA0/P1.1 (io), 31 TA1/P1.2 (io), 32 TA2/P1.3 (io), 33 SMCLK/TCK/P1.4 (io), 34 TMS/TA0/P1.5 (io), 35 TDI/TCLK/TA1/P1.6 (io), 36 TDO/TDI/TA2/P1.7 (io), 37 SBWTCK/TEST (in), 38 DVCC (power), 39 DVCC (power), 40 ROSC/P2.5 (io)

## MSP430G2744IYFF
designator *  value MSP430G2744IYFF
ki_keywords: TI MSP430 16-bit mixed signal microcontroller; ki_description: 32kB + 256B Flash, 1kB RAM, BGA-49; ki_fp_filters: Texas*DSBGA*3.33x3.488mm*Layout7x7*P0.4mm*; Footprint: Package_BGA:Texas_DSBGA-49_3.33x3.488mm_Layout7x7_P0.4mm; Supplier: http://www.ti.com/lit/ds/symlink/msp430g2744.pdf
footprint Texas_DSBGA-49_3.33x3.488mm_Layout7x7_P0.4mm
pins: A1 XOUT/P2.7 (io), A2 XIN/P2.6 (io), A3 DVSS (power), A4 ACLK/A0/P2.0 (io), A5 TA0/A2/P2.2 (io), A6 P3.1/UCB0SIMO/UCB0SDA (io), A7 P3.2/UCB0SOMI/UCB0SCL (io), B1 DVSS (power), B2 DVSS (power), B3 ~{{RST}/NMI/SBWTDIO} (in), B4 TAINCLK/SMCLK/A1/P2.1 (io), B5 P3.0/A5/UCB0STE/UCA0CLK (io), B6 P3.3/UCB0CLK/UCA0STE (io), B7 AVSS (power), C1 DVCC (power), C2 ROSC/P2.5 (io), C3 DVSS (power), C4 DVSS (power), C5 AVSS (power), C6 AVCC (power), C7 AVCC (power), D1 SBWTCK/TEST (in), D2 TDO/TDI/TA2/P1.7 (io), D3 DVCC (power), D4 DVCC (power), D5 AVCC (power), D6 P4.0/TB0 (io), D7 P4.1/TB1 (io), E1 TMS/TA0/P1.5 (io), E2 TA1/P1.2 (io), E3 TDI/TCLK/TA1/P1.6 (io), E4 DVCC (power), E5 DVCC (power), E6 P4.2/TB2 (io), E7 P4.3/A12/TB0 (io), F1 TCK/SMCLK/P1.4 (io), F2 TACLK/ADC10CLK/P1.0 (io), F3 TA1/VREF-/VeREF-/A3/P2.3 (io), F4 P3.6/A6 (io), F5 P4.7/TBCLK (io), F6 P4.5/A14/TB2 (io), F7 P4.4/A13/TB1 (io), G1 TA2/P1.3 (io), G2 TA0/P1.1 (io), G3 TA2/VREF+/VeREF+/A4/P2.4 (io), G4 P3.7/A7 (io), G5 P3.5/UCA0RXD/UCA0SOMI (io), G6 P3.4/UCA0TXD/UCA0SIMO (io), G7 P4.6/A15/TBOUTH (io)

## MSP430G2755IDA38
designator *  value MSP430G2755IDA38
ki_keywords: TI MSP430 16-bit mixed signal microcontroller; ki_description: 32kB Flash, 4kB RAM, TSSOP-38; ki_fp_filters: TSSOP*6.1x12.5mm*P0.65mm*; Footprint: Package_SO:TSSOP-38_6.1x12.5mm_P0.65mm; Supplier: http://www.ti.com/lit/ds/symlink/msp430g2755.pdf
footprint TSSOP-38_6.1x12.5mm_P0.65mm
pins: 1 SBWTCK/TEST (in), 2 DVCC (power), 3 TA1.0/ROSC/P2.5 (io), 4 DVSS (power), 5 XOUT/P2.7 (io), 6 XIN/P2.6 (io), 7 ~{{RST}/NMI/SBWTDIO} (in), 8 TA1CLK/ACLK/A0/P2.0 (io), 9 TA0INCLK/SMCLK/A1/P2.1 (io), 10 TA0.0/A2/P2.2 (io), 11 P3.0/A5/UCB0STE/UCA0CLK (io), 12 P3.1/UCB0SIMO/UCB0SDA (io), 13 P3.2/UCB0SOMI/UCB0SCL (io), 14 P3.3/UCB0CLK/UCA0STE (io), 15 AVSS (power), 16 AVCC (power), 17 P4.0/CA0/TB0.0 (io), 18 P4.1/CA1/TB0.1 (io), 19 P4.2/CA2/TB0.2 (io), 20 P4.3/A12/CA3/TB0.0 (io), 21 P4.4/A13/CA4/TB0.1 (io), 22 P4.5/A14/CA5/TB0.2 (io), 23 P4.6/A15/CA6/TB0OUTH (io), 24 P4.7/CA7/TB0CLK (io), 25 P3.4/UCA0TXD/UCA0SIMO (io), 26 P3.5/UCA0RXD/UCA0SOMI (io), 27 P3.6/A6/TA1.1 (io), 28 P3.7/A7/TA1.2 (io), 29 TA0.1/VREF-/VeREF-/A3/P2.3 (io), 30 TA0.2/VREF+/VeREF+/A4/P2.4 (io), 31 TA0CLK/ADC10CLK/P1.0 (io), 32 TA0.0/P1.1 (io), 33 TA0.1/P1.2 (io), 34 TA0.2/P1.3 (io), 35 TCK/SMCLK/P1.4 (io), 36 TMS/TA0.0/P1.5 (io), 37 TDI/TA0.1/P1.6 (io), 38 TDO/TDI/TA0.2/P1.7 (io)

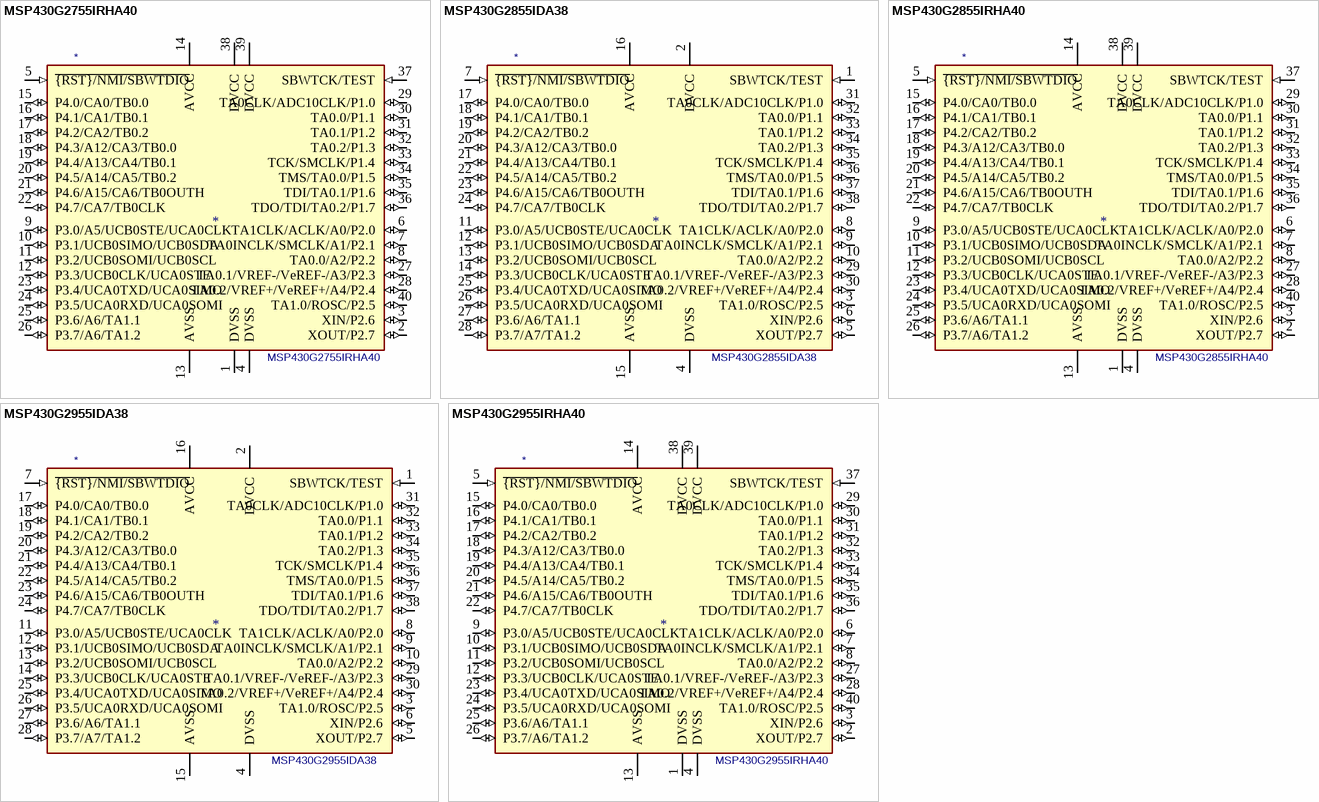
[diagram p34: symbols MSP430G2755IRHA40 to MSP430G2955IRHA40]